# Altium schematic symbol library Schlib1.SchLib: 185 symbols (part 1 of 2)
Pins are listed as number, name and electrical type; pins without a type are passive.

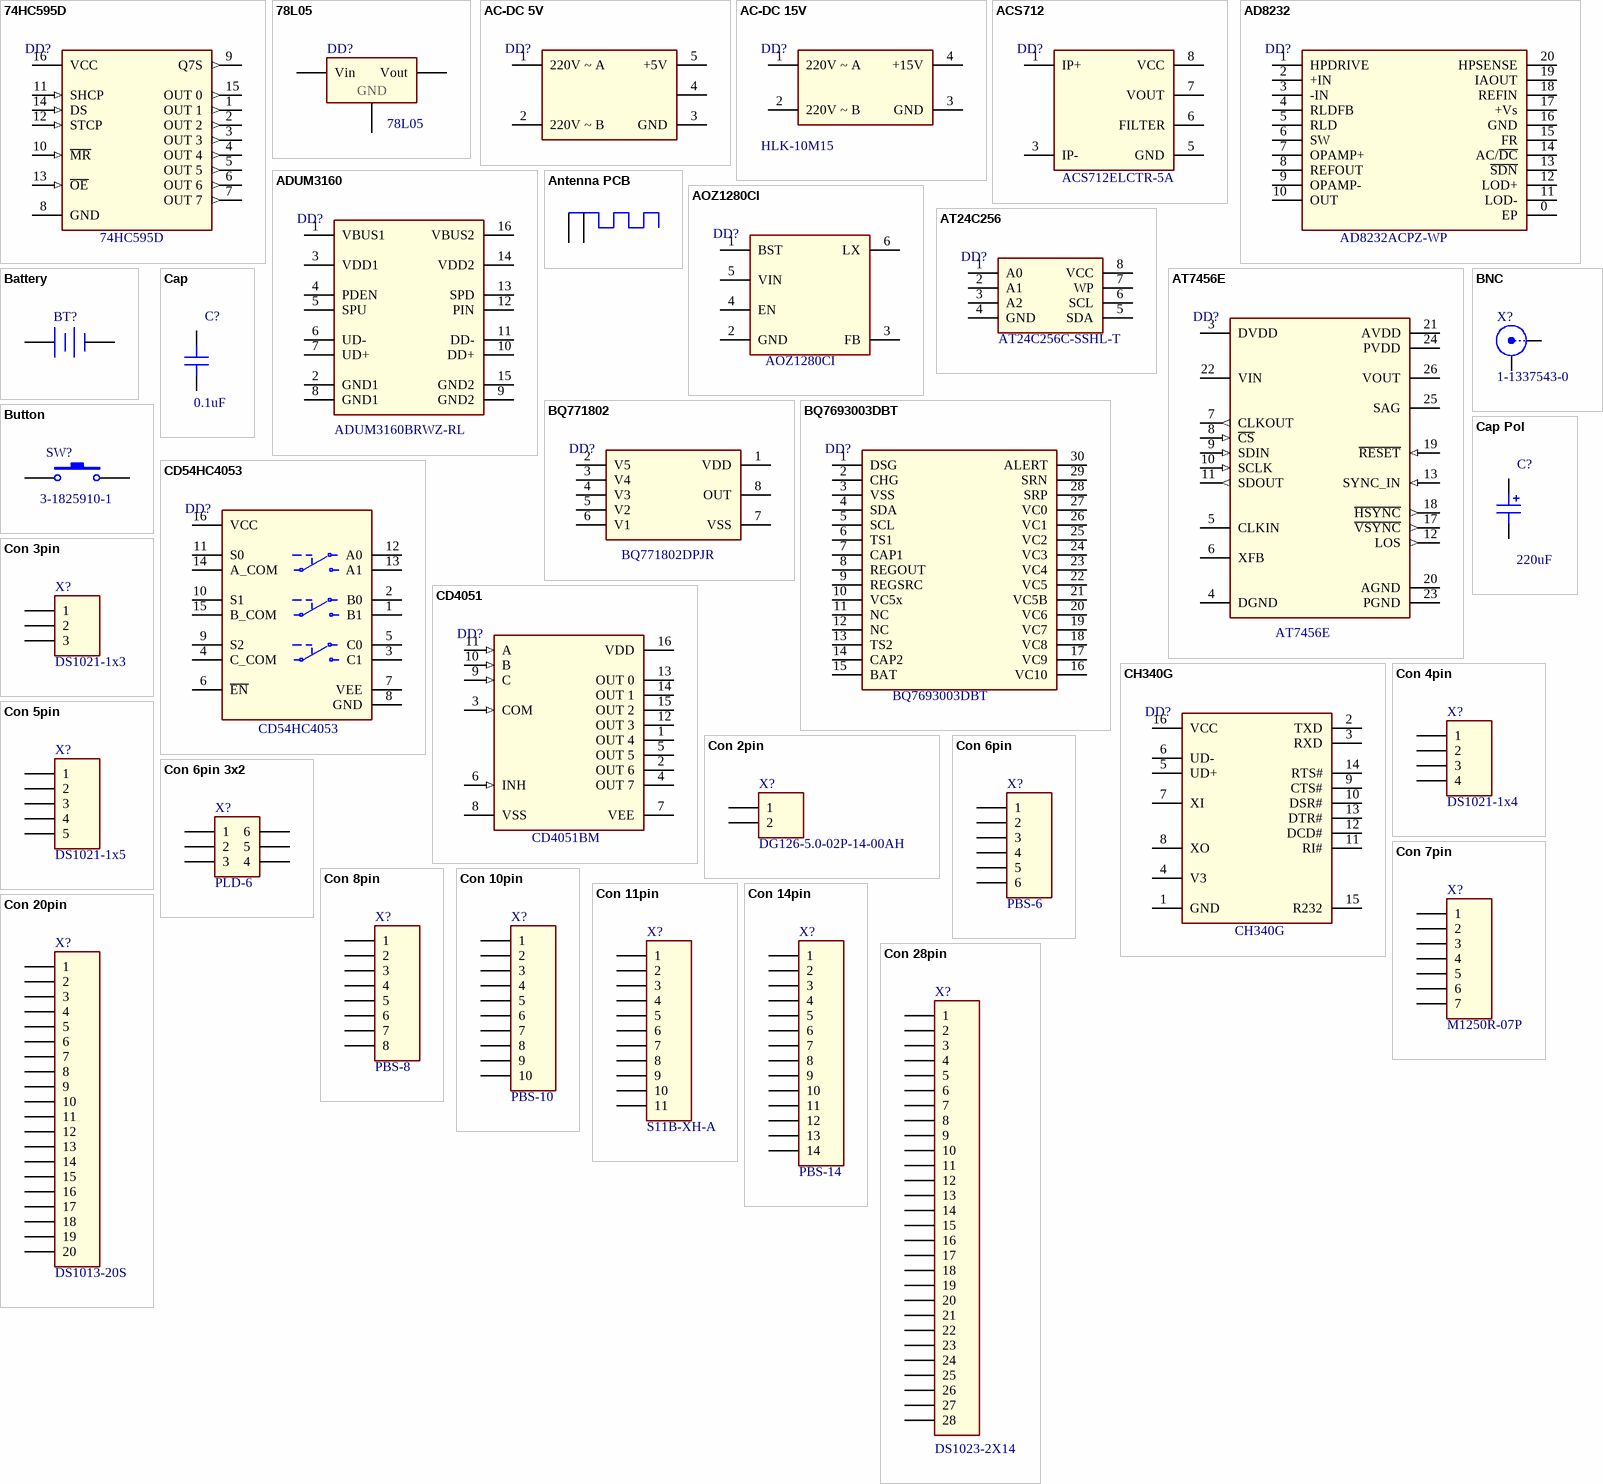
[diagram p0: symbols 74HC595D to Con 28pin]

## 74HC595D
designator DD?  PartNumber: 74HC595D
IC, shift register, 8-bit; Manufacturer: NXP; Package: SOIC-16
footprint 16-SOIC (pitch 1.27 mm)
pins: 1 OUT 1 (out), 2 OUT 2 (out), 3 OUT 3 (out), 4 OUT 4 (out), 5 OUT 5 (out), 6 OUT 6 (out), 7 OUT 7 (out), 8 GND, 9 Q7S (out), 10 ~{MR} (in), 11 SHCP (in), 12 STCP (in), 13 ~{OE} (in), 14 DS (in), 15 OUT 0 (out), 16 VCC

## 78L05
designator DD?  PartNumber: 78L05
IC, LDO, 100mA, 5V; Manufacturer: STMicroelectronics; Package: SOT-89-3; ComponentLink1Description: New link; ComponentLink1URL: *
footprint SOT-89-3
pins: 1 Vout, 2 GND, 3 Vin

## AC-DC 5V
designator DD?
AC-DC Power Supply 5V 700mA; Manufacturer: China; Package: Custom PCB; PartNumber: *
footprint MOD: AC-DC 5V 0.7A
pins: 1 220V ~ A, 2 220V ~ B, 3 GND, 4, 5 +5V

## AC-DC 15V
designator DD?  PartNumber: HLK-10M15
AC-DC Power Supply 15V 0.67A; Manufacturer: Hi-Link; Package: Custom module
footprint MOD: AC-DC HLK-10MXX
pins: 1 220V ~ A, 2 220V ~ B, 3 GND, 4 +15V

## ACS712
designator DD?  PartNumber: ACS712ELCTR-5A
IC, Hall Effect-Based Linear Current Sensor; Manufacturer: Allegro; Package: SOIC-8
footprint 8-SOIC (pitch 1.27 mm); pin to pad 1>1+2 3>3+4
pins: 1 IP+, 3 IP-, 5 GND, 6 FILTER, 7 VOUT, 8 VCC

## AD8232
designator DD?  PartNumber: AD8232ACPZ-WP
IC, Heart Rate Monitor; Manufacturer: Analog Devices; Package: LFCSP-20
footprint 20-LFCSP
pins: 0 EP, 1 HPDRIVE, 2 +IN, 3 -IN, 4 RLDFB, 5 RLD, 6 SW, 7 OPAMP+, 8 REFOUT, 9 OPAMP-, 10 OUT, 11 LOD-, 12 LOD+, 13 ~{SDN}, 14 AC/~{DC}, 15 FR, 16 GND, 17 +Vs, 18 REFIN, 19 IAOUT, 20 HPSENSE

## ADUM3160
designator DD?  PartNumber: ADUM3160BRWZ-RL
IC, Full/Low Speed 2.5 kV USB Digital Isolator; Manufacturer: Analog Devices; Package: SOIC-16-W
footprint 16-SOIC-W
pins: 1 VBUS1, 2 GND1, 3 VDD1, 4 PDEN, 5 SPU, 6 UD-, 7 UD+, 8 GND1, 9 GND2, 10 DD+, 11 DD-, 12 PIN, 13 SPD, 14 VDD2, 15 GND2, 16 VBUS2

## Antenna PCB
designator ANT?  (net tie, no BOM)
footprint ANT: MIFA AN91445
footprint ANT: LITTLE_WORM
pins: 1 RF, 2 GND

## AOZ1280CI
designator DD?  PartNumber: AOZ1280CI
IC, Simple Buck Regulator; Manufacturer: Alpha & Omega; Package: SOT-26
footprint SOT-26
pins: 1 BST, 2 GND (power), 3 FB, 4 EN, 5 VIN (power), 6 LX

## AT24C256
designator DD?  PartNumber: AT24C256C-SSHL-T
IC, EEPROM; Manufacturer: Microchip Technology; Package: DIP8+socket
footprint 8-SOIC (pitch 1.27 mm)
footprint 8-DIP+SOCKET
pins: 1 A0, 2 A1, 3 A2, 4 GND, 5 SDA, 6 SCL, 7 WP, 8 VCC

## AT7456E
designator DD?  PartNumber: AT7456E
IC, Single-Channel Monochrome On-Screen Display with Integrated EEPROM; Manufacturer: ZHONGKEWEI; Package: TSSOP-28
footprint 28-TSSOP
pins: 3 DVDD, 4 DGND, 5 CLKIN, 6 XFB, 7 CLKOUT (out), 8 ~{CS} (in), 9 SDIN (in), 10 SCLK (in), 11 SDOUT (out), 12 LOS (out), 13 SYNC_IN (in), 17 ~{VSYNC} (out), 18 ~{HSYNC} (out), 19 ~{RESET} (in), 20 AGND, 21 AVDD, 22 VIN, 23 PGND, 24 PVDD, 25 SAG, 26 VOUT

## Battery
designator BT?
Coin Battery Holder; Manufacturer: KLS electronic co ltd; PartNumber: KLS5-CR2032-01; Package: BH-642
footprint BAT: BH-642
pins: 1 +, 2 -

## BNC
designator X?  PartNumber: 1-1337543-0
Connector BNC; Manufacturer: TE Connectivity; Package: 1-1337543-0
footprint CON: 1-1337543-0
footprint CON: F102-243
pins: 1 X, 2 Y

## BQ771802
designator DD?  PartNumber: BQ771802DPJR
IC, Heart Rate Monitor; Manufacturer: Texas Instruments; Package: WSON-8
footprint 8-WSON 3x4
pins: 1 VDD, 2 V5, 3 V4, 4 V3, 5 V2, 6 V1, 7 VSS, 8 OUT

## BQ7693003DBT
designator DD?  PartNumber: BQ7693003DBT
IC,  10-series cell battery monitor family / for li-ion; Manufacturer: Texas Instruments; Package: TSSOP-30
footprint 30-TSSOP
pins: 1 DSG, 2 CHG, 3 VSS, 4 SDA, 5 SCL, 6 TS1, 7 CAP1, 8 REGOUT, 9 REGSRC, 10 VC5x, 11 NC, 12 NC, 13 TS2, 14 CAP2, 15 BAT, 16 VC10, 17 VC9, 18 VC8, 19 VC7, 20 VC6, 21 VC5B, 22 VC5, 23 VC4, 24 VC3, 25 VC2, 26 VC1, 27 VC0, 28 SRP, 29 SRN, 30 ALERT

## Button
designator SW?  PartNumber: 3-1825910-1
Switch Tactile 6x6; Manufacturer: TE Connectivity; Package: DIP 6х6 H17
footprint BUT: DIP 6x6 H16
footprint BUT: SMD 6x6 H4.3
footprint BUT: KLS7-TS6606-5.0
footprint BUT: SMD 6x6 H8
footprint BUT: SMD 5Х5 H1.5
footprint BUT: DIP 6x6 H4.3
footprint BUT: KLS7-TS6606-8.0
footprint BUT: SMD 6x6 H11.5
footprint BUT: SMD 5Х5 H4.5
footprint BUT: SMD 6.4Х6.2 H5
pins: 1, 2

## Cap
designator C?  value 0.1uF
Cap; PartNumber: C0402_0.1uF_X7R_10V_20%; Voltage: 10V; Tolerance: 20%; TypeDielectric: X7R; Manufacturer: *; Package: 0402
footprint CAP: 0402
footprint CAP: 0603
footprint CAP: 0805
footprint CAP: ECQ-E6103KF
footprint CAP: JFZ0A9474K150000B
footprint CAP: JFW0A9684K225000B
footprint CAP: B32922C3474K000
footprint CAP: JFB02G105K200000B
footprint CAP: 1206
footprint CAP: Y2_222_7.5pitch
footprint CAP: 1812
footprint CAP: 0201
pins: 1, 2

## Cap Pol
designator C?  value 220uF
Cap, electrolytic; PartNumber: C6.3x11_220uF_16V_20%; Tolerance: 20%; Voltage: 16V; Manufacturer: *; Package: 6.3x11
footprint CAP: ELCT 6.3x11 BLUE
footprint CAP: ELCT 10x20 BLUE
footprint CAP: ELCT 18x35 BLACK
footprint CAP: ELCT R 10x20 BLUE TYPE1
pins: 1, 2

## CD54HC4053
designator DD?  PartNumber: CD54HC4053
IC, Logic Analog Multiplexer; Manufacturer: Texas Instruments; Package: SOIC-16
footprint 16-SOIC (pitch 1.27 mm)
pins: 1 B1, 2 B0, 3 C1, 4 C_COM, 5 C0, 6 ~{EN}, 7 VEE, 8 GND, 9 S2, 10 S1, 11 S0, 12 A0, 13 A1, 14 A_COM, 15 B_COM, 16 VCC

## CD4051
designator DD?  PartNumber: CD4051BM
IC, Multiplexer, 8 channels; Manufacturer: Texas Instruments; Package: SOIC-16
footprint 16-SOIC (pitch 1.27 mm)
pins: 1 OUT 4, 2 OUT 6, 3 COM (in), 4 OUT 7, 5 OUT 5, 6 INH (in), 7 VEE, 8 VSS, 9 C (in), 10 B (in), 11 A (in), 12 OUT 3, 13 OUT 0, 14 OUT 1, 15 OUT 2, 16 VDD

## CH340G
designator DD?  PartNumber: CH340G
IC, USB to UART; Manufacturer: DreamCity Innovations; Package: SOIC-16
footprint 16-SOIC (pitch 1.27 mm)
pins: 1 GND, 2 TXD, 3 RXD, 4 V3, 5 UD+, 6 UD-, 7 XI, 8 XO, 9 CTS#, 10 DSR#, 11 RI#, 12 DCD#, 13 DTR#, 14 RTS#, 15 R232, 16 VCC

## Con 2pin
designator X?  PartNumber: DG126-5.0-02P-14-00AH
Connector, 2 pin, 5 mm pitch; Manufacturer: Degson Electronics Co. Ltd.; Pitch: 5mm; Package: DG126
footprint CON: DG126-5.0-02
footprint CON: PLS-2
footprint CON: DG350-3.5-02
footprint CON: DG308-2.54-02
footprint CON: GH 2PINS SMD VERTICAL
footprint CON: PBS-2
footprint CON: DG301-5.0-02
footprint CON: DG128-5.0-02P
footprint CON: PLS-2 (TYPE 11)
pins: 1, 2

## Con 3pin
designator X?  PartNumber: DS1021-1x3
Connector, 3 pin, 2.54 mm pitch; Manufacturer: Connfly electronic (Zhenqin); Pitch: 2.54; Package: PLS-3
footprint CON: PLS-3
footprint CON: PLS-3R-U1
footprint CON: PLS-3R-D1
footprint CON: GH 3PINS SMD VERTICAL
footprint CON: PLSS-3-1 EDGE
footprint CON: SCSL-3 EDGE
footprint CON: PLSS-3-1
footprint CON: DG350-3.5-03
footprint CON: JST-XH -Thru (V)-3Pin
pins: 1, 2, 3

## Con 4pin
designator X?  PartNumber: DS1021-1x4
Connector, 4 pin, 2.54 mm pitch; Manufacturer: Connfly electronic (Zhenqin); Pitch: 2.54; Package: PLS-4
footprint CON: PLS-4
footprint CON: HB825-8.25-4P
footprint CON: KLS12-153-4P
footprint CON: SH 4PINS SMD HORIZONTAL
footprint CON: B4B-PH-K-S
pins: 1, 2, 3, 4

## Con 5pin
designator X?  PartNumber: DS1021-1x5
Connector, 5 pin, 2.54 mm pitch; Manufacturer: Connfly electronic (Zhenqin); Pitch: 2.54; Package: PLS-5
footprint CON: GH 5PINS SMD VERTICAL
footprint CON: B5B-PH-K-S
pins: 1, 2, 3, 4, 5

## Con 6pin
designator X?  PartNumber: PBS-6
Connector, 6 pin, 2.54 mm pitch; Manufacturer: Connfly electronic (Zhenqin); Pitch: 2.54mm; Package: PBS-6
footprint CON: PBS-6
footprint CON: PLS-6R-D1
footprint CON: PBS-6R
footprint CON: PLS-6
footprint CON: 5034800640
pins: 1, 2, 3, 4, 5, 6

## Con 6pin 3x2
designator X?  PartNumber: PLD-6
Connector, 6 pin 3x2, 2.54 mm pitch; Manufacturer: Connfly electronic (Zhenqin); Pitch: 2.54mm; Package: PLD-6
footprint CON: PLD-6
footprint CON: PBD-6 LONG
pins: 1, 2, 3, 4, 5, 6

## Con 7pin
designator X?  PartNumber: M1250R-07P
Connector, 7 pin, 1.25 mm pitch; Manufacturer: XFCN; Pitch: 1.25mm; Package: M1250R-07P
footprint CON: M1250R-07P
pins: 1, 2, 3, 4, 5, 6, 7

## Con 8pin
designator X?  PartNumber: PBS-8
Connector, 8 pin, 2.54 mm pitch; Manufacturer: Connfly electronic (Zhenqin); Pitch: 2.54mm; Package: PBS-8
footprint CON: PBS-8
footprint CON: PLS-8R-D1
footprint CON: PLD-8 EDGE
footprint CON: PLS-8
footprint CON: FFC/FPC 8 PINS 0.5MM PITCH
footprint CON: PLS-8 (TYPE 10)
footprint CON: PLS-8 TIGHTLY
footprint CON: PLS-8 (TYPE 10) TIGHTLY
pins: 1, 2, 3, 4, 5, 6, 7, 8

## Con 10pin
designator X?  PartNumber: PBS-10
Connector, 10 pin, 2.54 mm pitch; Manufacturer: Connfly electronic (Zhenqin); Pitch: 2.54mm; Package: PBS-10
footprint CON: PBS-10 (PBS-16)
footprint CON: FFC/FPC 10 PINS 1MM PITCH
footprint CON: PBD-10
pins: 1, 2, 3, 4, 5, 6, 7, 8, 9, 10

## Con 11pin
designator X?  PartNumber: S11B-XH-A
Connector, 11 pin, 2.5 mm pitch; Manufacturer: KLS electronic co ltd; Pitch: 2.5 mm; Package: S11B-XH-A
footprint CON: S11B-XH-A
pins: 1, 2, 3, 4, 5, 6, 7, 8, 9, 10, 11

## Con 14pin
designator X?  PartNumber: PBS-14
Connector, 14 pin, 2.54 mm pitch; Manufacturer: Connfly electronic (Zhenqin); Pitch: 2.54mm; Package: PBS-14
footprint CON: PBS-14 (PBS-16)
footprint CON: IDC BH-14R
footprint CON: IDC-14MS
pins: 1, 2, 3, 4, 5, 6, 7, 8, 9, 10, 11, 12, 13, 14

## Con 20pin
designator X?  PartNumber: DS1013-20S
Connector, 20 pin, 2.54 mm pitch; Manufacturer: Connfly electronic (Zhenqin); Pitch: 2.54mm; Package: IDC-20MS
footprint CON: IDC-20MS
footprint CON: PLD-20
pins: 1, 2, 3, 4, 5, 6, 7, 8, 9, 10, 11, 12, 13, 14, 15, 16, 17, 18, 19, 20

## Con 28pin
designator X?  PartNumber: DS1023-2X14
Connector, 28 pin, 2.54 mm pitch; Manufacturer: Connfly electronic (Zhenqin); Pitch: 2.54; Package: PBD-28
footprint CON: PBD-28
footprint CON: PLD-28
pins: 1, 2, 3, 4, 5, 6, 7, 8, 9, 10, 11, 12, 13, 14, 15, 16, 17, 18, 19, 20, 21, 22, 23, 24, 25, 26, 27, 28

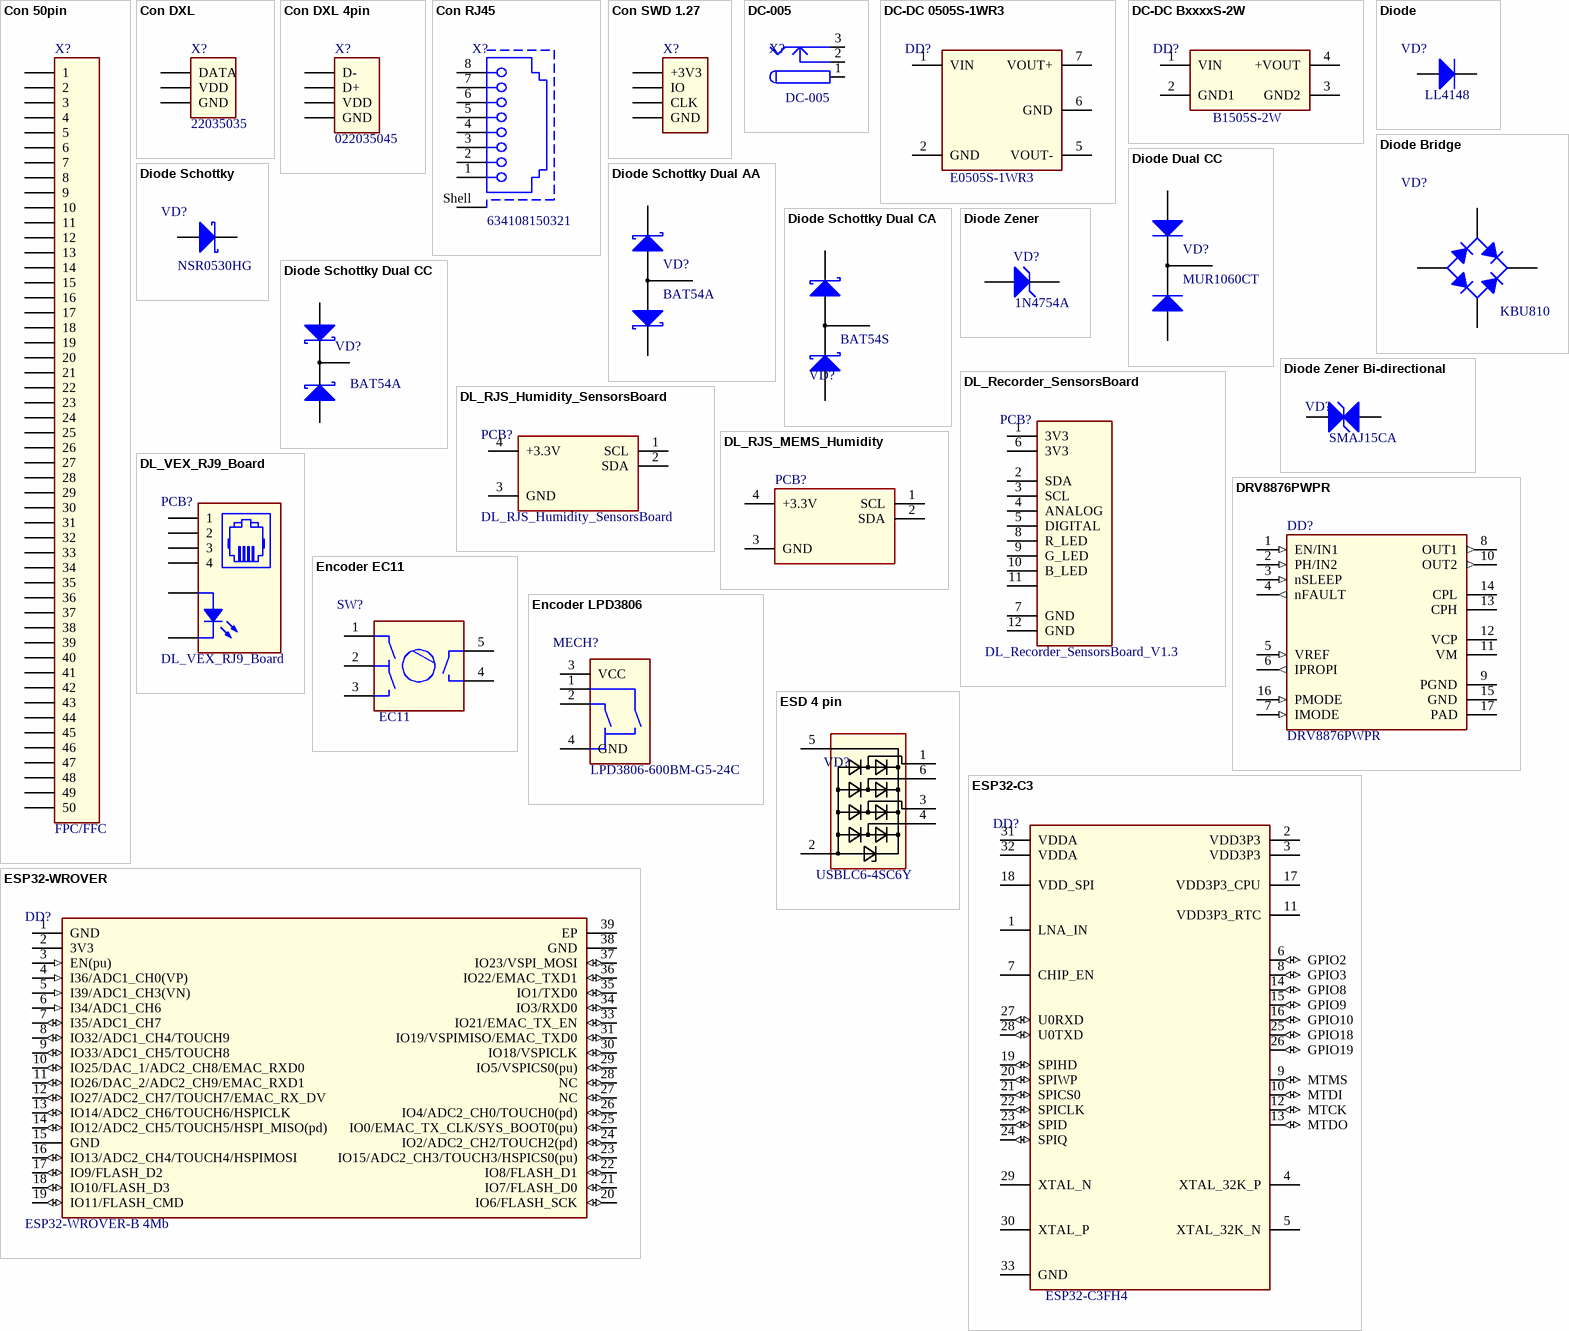
[diagram p1: symbols Con 50pin to ESP32-WROVER]

## Con 50pin
designator X?  PartNumber: FPC/FFC
Connector FFC/FPC, 50 pin, 0.5 mm pitch; Manufacturer: China; Pitch: 0.5; Package: FPC/FFC
footprint CON: FFC/FPC 50 PINS 0.5MM PITCH
pins: 1, 2, 3, 4, 5, 6, 7, 8, 9, 10, 11, 12, 13, 14, 15, 16, 17, 18, 19, 20, 21, 22, 23, 24, 25, 26, 27, 28, 29, 30, 31, 32, 33, 34, 35, 36, 37, 38, 39, 40, 41, 42, 43, 44, 45, 46, 47, 48, 49, 50

## Con DXL
designator X?  PartNumber: 22035035
Connector, 3 pin, 2.5 mm pitch; Manufacturer: Molex; Pitch: 2.5mm; Package: 22035035
footprint CON: 22035035
footprint CON: 22057035
footprint CON: JST-B3B-EH-A
pins: 1 DATA, 2 VDD, 3 GND

## Con DXL 4pin
designator X?  PartNumber: 022035045
Connector, 4 pin, 2.5 mm pitch; Manufacturer: Molex; Pitch: 2.5mm; Package: 022035045
footprint CON: 22035045
footprint CON: 22057045
pins: 1 D-, 2 D+, 3 VDD, 4 GND

## Con RJ45
designator X?  PartNumber: 634108150321
Connector, RJ45; Manufacturer: Wurth Elektronik; Package: 634108150321
footprint CON: 634108150321
footprint PCB: DL_RJS_Splitter_MiniRJS
footprint CON: ZES15211NN
pins: 1, 2, 3, 4, 5, 6, 7, 8, Shell

## Con SWD 1.27
designator X?  (no BOM)
Connector, 4 holes , 1.27 mm pitch
footprint CON: HOLE X 4 1.27P D0.6
pins: 1 GND, 2 CLK, 3 IO, 4 +3V3

## DC-005
designator X?  PartNumber: DC-005
Con, Jack 5.5x2.1; Manufacturer: Китай; ComponentLink1Description: Manufacturer Link; ComponentLink1URL: http://domino.kycon.com/internet/Products.html; Package: DC-005
footprint CON: DC-005
pins: 1 (power), 2 (power), 3 (power)

## DC-DC 0505S-1WR3
designator DD?  PartNumber: E0505S-1WR3
IC, 1W, Fixed input voltage , isolated & unregulated dual output; Manufacturer: MORNSUN; Package: SIP-7
footprint MOD: DC-DC 0505S-1WR3
pins: 1 VIN, 2 GND, 5 VOUT-, 6 GND, 7 VOUT+

## DC-DC ВххххS-2W
designator DD?  PartNumber: B1505S-2W
Module, 2W isolated DC-DC converter; Manufacturer: MORNSUN; Package: SIP-7
footprint MOD: DC-DC BХХХХS-2W
pins: 1 VIN, 2 GND1, 3 GND2, 4 +VOUT

## Diode
designator VD?  PartNumber: LL4148
Diode, 100V, 150mA; Manufacturer: Vishay Semiconductors; Package: SOD-80; ComponentLink1Description: Datasheet link; ComponentLink1URL: http://www.diodes.com/datasheets/ds19005.pdf
footprint DIODE: SOD-323
footprint DIODE: SMC
footprint DIODE: SOD-128
footprint DIODE: SOD-523
footprint DIODE: SOD-80
footprint DIODE: SOD-123
footprint DIODE: DO-41 (DO-204AL)
footprint DIODE: SMA
footprint DIODE: DO-15 (DO-204AC)
pins: 1 A, 2 C

## Diode Bridge
designator VD?  PartNumber: KBU810
Bridge Rectifiers, 1000V, 8A; Manufacturer: Yangjie; Package: KBU; ComponentLink1Description: Datasheet link; ComponentLink1URL: http://www.diodes.com/datasheets/ds19005.pdf
footprint DIODE: BRIDGE KBU
pins: 1 A, 2 A-C, 3 A-C, 4 C

## Diode Dual CC
designator VD?  PartNumber: MUR1060CT
Diode Ultra Fast Dual CC, 600V, 10A; Manufacturer: Yangjie; Package: TO-220; ComponentLink1Description: Datasheet link; ComponentLink1URL: http://www.diodes.com/datasheets/ds19005.pdf
footprint TO-220
footprint TO-220 BENT LEADS 1
pins: 1 A, 2 AA, 3 A

## Diode Schottky
designator VD?  PartNumber: NSR0530HG
Diode Schottky, 30V, 0.5A; Manufacturer: ON  Semiconducto; Package: SOD-323; ComponentLink1Description: Datasheet link; ComponentLink1URL: http://www.diodes.com/datasheets/ds19005.pdf
footprint DIODE: SOD-323
footprint DIODE: SMC
footprint DIODE: SOD-128
footprint DIODE: SOD-523
footprint DIODE: SMA
footprint DIODE: SOD-123
pins: 1 A, 2 C

## Diode Schottky Dual AA
designator VD?  PartNumber: BAT54A
Diode Schottky Dual, 30V, 0.2A; Manufacturer: NXP; Package: SOD-323; ComponentLink1Description: Datasheet link; ComponentLink1URL: http://www.diodes.com/datasheets/ds19005.pdf
footprint SOT-23
pins: 1 C, 2 C, 3 AA

## Diode Schottky Dual CA
designator VD?  PartNumber: BAT54S
Diode Schottky Dual, 30V, 0.2A; Manufacturer: NXP; Package: SOD-323; ComponentLink1Description: Datasheet link; ComponentLink1URL: http://www.diodes.com/datasheets/ds19005.pdf
footprint SOT-23
pins: 1 A, 2 C, 3 CA

## Diode Schottky Dual CC
designator VD?  PartNumber: BAT54A
Diode Schottky Dual, 30V, 0.2A; Manufacturer: NXP; Package: SOD-323; ComponentLink1Description: Datasheet link; ComponentLink1URL: http://www.diodes.com/datasheets/ds19005.pdf
footprint SOT-23
footprint TO-220 SHORT LEADS; pin to pad 2>3 3>2
pins: 1 C, 2 C, 3 AA

## Diode Zener
designator VD?  PartNumber: 1N4754A
Zener Diode; Manufacturer: China; Package: DO-41
footprint DIODE: DO-41 (DO-204)
footprint DIODE: DO-41 GLASS (DO-204)
footprint DIODE: SMA
footprint DIODE: SOD-123
pins: 1 A, 2 C

## Diode Zener Bi-directional
designator VD?  PartNumber: SMAJ15CA
Zener Diode, Bi-directional; Manufacturer: Yangjie; Package: SMA
footprint DIODE: SMA
pins: 1 A, 2 C

## DL_Recorder_SensorsBoard
designator PCB?  PartNumber: DL_Recorder_SensorsBoard_V1.3
PCB, MEMS sensors+LEDs; Manufacturer: AR; Package: PCB
footprint PCB: DL_Recorder_SensorsBoard_V1.3
pins: 1 3V3, 2 SDA, 3 SCL, 4 ANALOG, 5 DIGITAL, 6 3V3, 7 GND, 8 R_LED, 9 G_LED, 10 B_LED, 11, 12 GND

## DL_RJS_Humidity_SensorsBoard
designator PCB?  PartNumber: DL_RJS_Humidity_SensorsBoard  (hidden comment: *)
PCB with HDC1080DMB; Manufacturer: AR; Package: PCB
footprint PCB: DL_RJS_HUMIDITY_SENSORSBOARD
footprint PCB: DL_RJS_HUMIDITY_SENSORSBOARD_BLACK
pins: 1 SCL, 2 SDA, 3 GND (power), 4 +3.3V

## DL_RJS_MEMS_Humidity
designator PCB?
Custom PCB with HDC1080DMB; Manufacturer: AR; PartNumber: DL_RJS_MEMS_Humidity_V1.0; Package: Custom PCB
footprint PCB: DL_RJS_MEMS_Accelerometer_V1.0
footprint PCB: DL_RJS_MEMS_Humidity_V1.0
footprint PCB: DL_RJS_MEMS_Luxmeter_V1.0
footprint PCB: DL_RJS_MEMS_UV_V1.0
pins: 1 SCL, 2 SDA, 3 GND (power), 4 +3.3V

## DL_VEX_RJ9_Board
designator PCB?  PartNumber: DL_VEX_RJ9_Board  (hidden comment: *)
PCB, RJ9+LED board; Manufacturer: AR; Package: PCB
footprint PCB: DL_VEX_RJ9_Board; pin to pad 1>4 2>3 3>2 4>1
pins: 1, 2, 3, 4, 5, 6

## DRV8876PWPR
designator DD?  PartNumber: DRV8876PWPR
IC, DC motor driver; Manufacturer: Texas Instruments; Package: 16-TSSOP
footprint 16-TSSOP-PAD
pins: 1 EN/IN1 (in), 2 PH/IN2 (in), 3 nSLEEP (in), 4 nFAULT (out), 5 VREF (in), 6 IPROPI (out), 7 IMODE (in), 8 OUT1 (out), 9 PGND (power), 10 OUT2 (out), 11 VM (power), 12 VCP, 13 CPH (power), 14 CPL (power), 15 GND (power), 16 PMODE (in), 17 PAD (power)

## Encoder EC11
designator SW?  PartNumber: EC11
Rotary encoder with button; Manufacturer: China; Package: EC11
footprint BUT: EC11-15mm
pins: 1, 2, 3, 4, 5

## Encoder LPD3806
designator MECH?  PartNumber: LPD3806-600BM-G5-24C
Rotary encoder; Manufacturer: China; Package: LPD3806
footprint MECH: ENCODER LPD3806
footprint MECH: ENCODER LPD3806 WITH CABLE GLAND
pins: 1, 2, 3 VCC, 4 GND

## ESD 4 pin
designator VD?  PartNumber: USBLC6-4SC6Y
Diode, ESD; Manufacturer: STMicroelectronics; Package: SOT-26
footprint SOT-26 (pitch 0.95 mm)
pins: 1, 2, 3, 4, 5, 6

## ESP32-C3
designator DD?  PartNumber: ESP32-C3FH4
IC, Microcontroller; Manufacturer: Espressif Systems; Package: QFN-32
footprint 32-QFN 0.5P 5x5
pins: 1 LNA_IN, 2 VDD3P3 (power), 3 VDD3P3 (power), 4 XTAL_32K_P, 5 XTAL_32K_N, 6 GPIO2 (io), 7 CHIP_EN, 8 GPIO3 (io), 9 MTMS (io), 10 MTDI (io), 11 VDD3P3_RTC (power), 12 MTCK (io), 13 MTDO (io), 14 GPIO8 (io), 15 GPIO9 (io), 16 GPIO10 (io), 17 VDD3P3_CPU (power), 18 VDD_SPI (power), 19 SPIHD (io), 20 SPIWP (io), 21 SPICS0 (io), 22 SPICLK (io), 23 SPID (io), 24 SPIQ (io), 25 GPIO18 (io), 26 GPIO19 (io), 27 U0RXD (io), 28 U0TXD (io), 29 XTAL_N, 30 XTAL_P, 31 VDDA (power), 32 VDDA (power), 33 GND (power)

## ESP32-WROVER
designator DD?  PartNumber: ESP32-WROVER-B 4Mb
Module, Flash 4Mb, PSRAM 4Mb, MIFA; Manufacturer: ESPRESSIF; Package: Custom PCB
footprint MOD: ESP32-WROVER
pins: 1 GND (power), 2 3V3 (power), 3 EN(pu) (in), 4 I36/ADC1_CH0(VP) (in), 5 I39/ADC1_CH3(VN) (in), 6 I34/ADC1_CH6 (in), 7 I35/ADC1_CH7 (io), 8 IO32/ADC1_CH4/TOUCH9 (io), 9 IO33/ADC1_CH5/TOUCH8 (io), 10 IO25/DAC_1/ADC2_CH8/EMAC_RXD0 (io), 11 IO26/DAC_2/ADC2_CH9/EMAC_RXD1 (io), 12 IO27/ADC2_CH7/TOUCH7/EMAC_RX_DV (io), 13 IO14/ADC2_CH6/TOUCH6/HSPICLK (io), 14 IO12/ADC2_CH5/TOUCH5/HSPI_MISO(pd) (io), 15 GND (power), 16 IO13/ADC2_CH4/TOUCH4/HSPIMOSI (io), 17 IO9/FLASH_D2 (io), 18 IO10/FLASH_D3 (io), 19 IO11/FLASH_CMD (io), 20 IO6/FLASH_SCK (io), 21 IO7/FLASH_D0 (io), 22 IO8/FLASH_D1 (io), 23 IO15/ADC2_CH3/TOUCH3/HSPICS0(pu) (io), 24 IO2/ADC2_CH2/TOUCH2(pd) (io), 25 IO0/EMAC_TX_CLK/SYS_BOOT0(pu) (io), 26 IO4/ADC2_CH0/TOUCH0(pd) (io), 27 NC (io), 28 NC (io), 29 IO5/VSPICS0(pu) (io), 30 IO18/VSPICLK (io), 31 IO19/VSPIMISO/EMAC_TXD0 (io), 33 IO21/EMAC_TX_EN (io), 34 IO3/RXD0 (io), 35 IO1/TXD0 (io), 36 IO22/EMAC_TXD1 (io), 37 IO23/VSPI_MOSI (io), 38 GND (power), 39 EP (power)

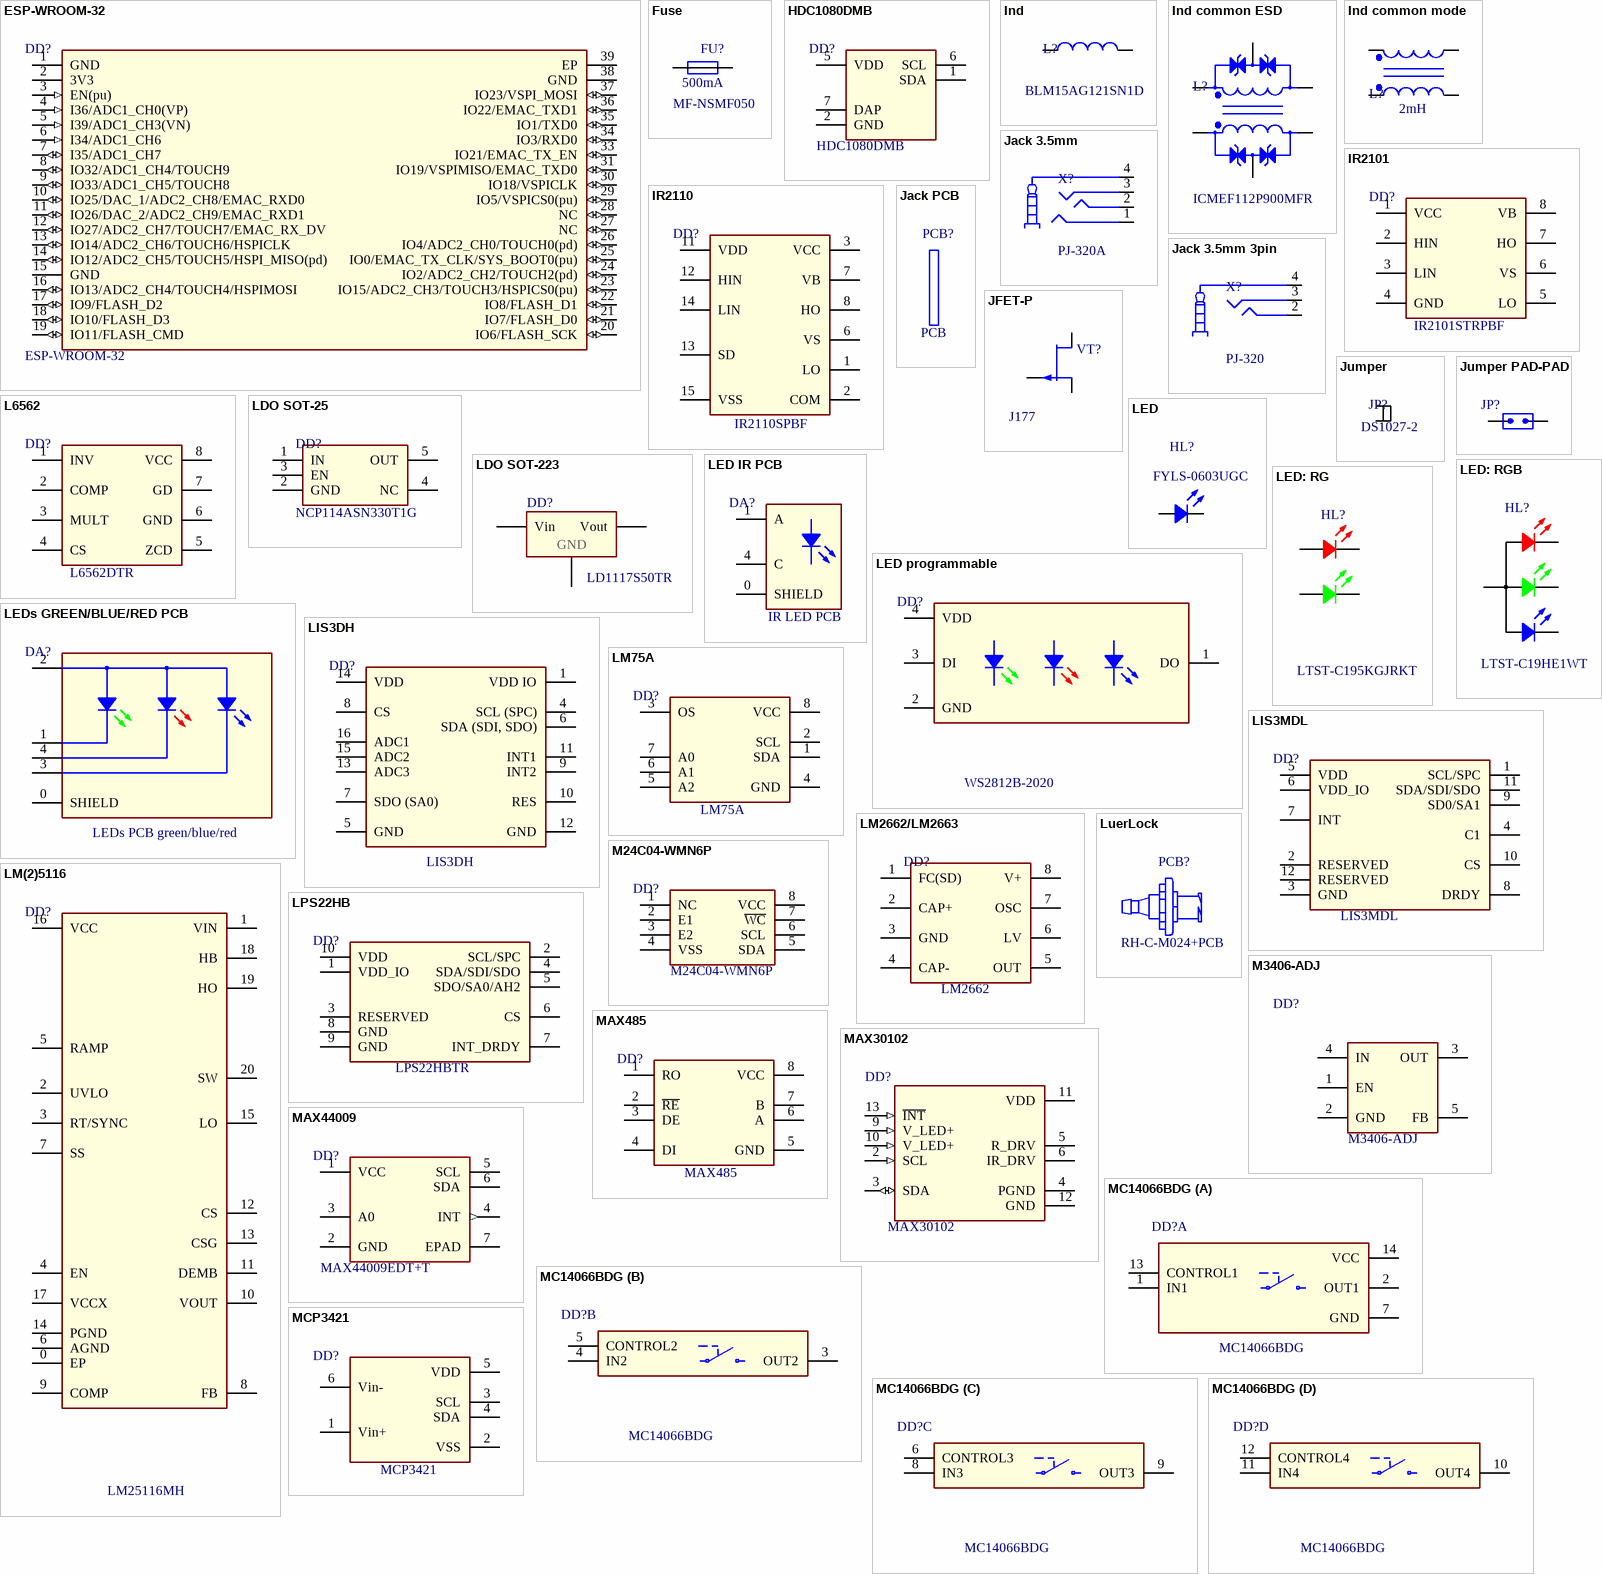
[diagram p2: symbols ESP-WROOM-32 to MCP3421]

## ESP-WROOM-32
designator DD?  PartNumber: ESP-WROOM-32
Module, Flash 4Mb, PSRAM 4Mb, MIFA; Manufacturer: ESPRESSIF; Package: Custom PCB
footprint MOD: ESP-WROOM-32
pins: 1 GND (power), 2 3V3 (power), 3 EN(pu) (in), 4 I36/ADC1_CH0(VP) (in), 5 I39/ADC1_CH3(VN) (in), 6 I34/ADC1_CH6 (in), 7 I35/ADC1_CH7 (io), 8 IO32/ADC1_CH4/TOUCH9 (io), 9 IO33/ADC1_CH5/TOUCH8 (io), 10 IO25/DAC_1/ADC2_CH8/EMAC_RXD0 (io), 11 IO26/DAC_2/ADC2_CH9/EMAC_RXD1 (io), 12 IO27/ADC2_CH7/TOUCH7/EMAC_RX_DV (io), 13 IO14/ADC2_CH6/TOUCH6/HSPICLK (io), 14 IO12/ADC2_CH5/TOUCH5/HSPI_MISO(pd) (io), 15 GND (power), 16 IO13/ADC2_CH4/TOUCH4/HSPIMOSI (io), 17 IO9/FLASH_D2 (io), 18 IO10/FLASH_D3 (io), 19 IO11/FLASH_CMD (io), 20 IO6/FLASH_SCK (io), 21 IO7/FLASH_D0 (io), 22 IO8/FLASH_D1 (io), 23 IO15/ADC2_CH3/TOUCH3/HSPICS0(pu) (io), 24 IO2/ADC2_CH2/TOUCH2(pd) (io), 25 IO0/EMAC_TX_CLK/SYS_BOOT0(pu) (io), 26 IO4/ADC2_CH0/TOUCH0(pd) (io), 27 NC (io), 28 NC (io), 29 IO5/VSPICS0(pu) (io), 30 IO18/VSPICLK (io), 31 IO19/VSPIMISO/EMAC_TXD0 (io), 33 IO21/EMAC_TX_EN (io), 34 IO3/RXD0 (io), 35 IO1/TXD0 (io), 36 IO22/EMAC_TXD1 (io), 37 IO23/VSPI_MOSI (io), 38 GND (power), 39 EP (power)

## Fuse
designator FU?  value 500mA  PartNumber: MF-NSMF050
Fuse, PTC; Manufacturer: Bourns; Package: 1206
footprint FUSE: 1206
footprint FUSE: KLS5-266
footprint FUSE: SMD 6.1x2.54
footprint FUSE: 0805
pins: 1, 2

## HDC1080DMB
designator DD?  PartNumber: HDC1080DMB
IC, Sensor of Humidity and Temperature; Manufacturer: Texas Instruments; Package: PWSON-6
footprint 6-PWSON
pins: 1 SDA, 2 GND (power), 5 VDD (power), 6 SCL, 7 DAP (power)

## Ind
designator L?  PartNumber: BLM15AG121SN1D
Inductor, Ferrite Beads, 1A, 10 Ohm; Manufacturer: Murata Electronics Inc.; Сurrent: 500mA; Impedance 100 MHz: 120 Ohm; Package: 0402; Value: *
footprint IND: 0402
footprint IND: 0603
footprint IND: SRN6045
footprint IND: TOR D15 S7 d0.6
footprint IND: TOR D30 S15 d1.0
footprint IND: TOR D31.5 S15.5 d1.6
footprint IND: 1008
footprint IND: 0805
footprint IND: FXL0420
footprint IND: VLS3015
footprint IND: 1008 H1
footprint IND: RLB0914
pins: 1, 2

## Ind common ESD
designator L?  PartNumber: ICMEF112P900MFR
COMMON MODE ESD FILTER; Manufacturer: Moda-Innochips; Impedance 100 MHz: 90 Ohm; Package: 1.27x1; Сurrent: *; Value: *
footprint IND: ICMEF112P900MFR
pins: 1, 2, 3, 4, 5, 6

## Ind common mode
designator L?  value 2mH
Common mode choke, 2mH, 4A; Manufacturer: China; PartNumber: CMC_2mH_4A; Package: CMC D17 S8 d0.6; Сurrent: 4A; Impedance 100 MHz: *
footprint IND: CMC 9x9 Coil former
footprint IND: CMC D18 S9 d0.6
footprint IND: CMC D22 S11 d0.6
footprint IND: WE-SL5
footprint IND: LF1480
footprint IND: B82722A
pins: 1, 2, 3, 4

## IR2101
designator DD?  PartNumber: IR2101STRPBF
IC, HIGH AND LOW SIDE DRIVER; Manufacturer: INFINEON TECHNOLOGIES AG.; Package: SOIC-8
footprint 8-SOIC
pins: 1 VCC, 2 HIN, 3 LIN, 4 GND, 5 LO, 6 VS, 7 HO, 8 VB

## IR2110
designator DD?  PartNumber: IR2110SPBF
IC, HIGH AND LOW SIDE DRIVER; Manufacturer: INFINEON TECHNOLOGIES AG.; Package: SOIC-16W
footprint 16-SOIC-W
pins: 1 LO, 2 COM, 3 VCC, 6 VS, 7 VB, 8 HO, 11 VDD, 12 HIN, 13 SD, 14 LIN, 15 VSS

## Jack 3.5mm
designator X?  PartNumber: PJ-320A
Con, Jack 3.5mm; ComponentLink1Description: Manufacturer Link; ComponentLink1URL: http://domino.kycon.com/internet/Products.html; Package: PJ-320A; Manufacturer: -
footprint CON: PJ-320A
pins: 1 (power), 2 (power), 3 (power), 4 (power)

## Jack 3.5mm 3pin
designator X?  PartNumber: PJ-320
Con, Jack 3.5mm 3pin; Manufacturer: China; ComponentLink1Description: Manufacturer Link; ComponentLink1URL: http://domino.kycon.com/internet/Products.html; Package: PJ-320
footprint CON: PJ-320
pins: 2 (power), 3 (power), 4 (power)

## Jack PCB
designator PCB?  PartNumber: PCB
Custom PCB; Manufacturer: AR; Package: Custom PCB
footprint SENS: PCB JACK

## JFET-P
designator VT?  PartNumber: J177
P-Channel JFET; Manufacturer: InterFET; Package: SOT-23
footprint SOT-23
pins: 1 S, 2 D, 3 G

## Jumper
designator JP?  PartNumber: DS1027-2
Jumper; Manufacturer: Connfly Electronic Co., Ltd.; Package: DS1027-2
footprint CON: DS1027-2
footprint CON: DS1027-2 R-angle D1
footprint CON: DS1027-2 R-angle U1

## Jumper PAD-PAD
designator JP?  (no BOM)
Jumper
footprint CON: JUMPER PAD-PAD
pins: 1, 2

## L6562
designator DD?  PartNumber: L6562DTR
IC, PFC CONTROLLER; Manufacturer: ST Microelectronics; Package: SOIC-8
footprint 8-SOIC (pitch 1.27 mm)
pins: 1 INV, 2 COMP, 3 MULT, 4 CS, 5 ZCD, 6 GND, 7 GD, 8 VCC

## LDO SOT-25
designator DD?  PartNumber: NCP114ASN330T1G
IC, LDO, 300mA, 3V3; Manufacturer: On Semiconductor; Package: SOT-25
footprint SOT-25
pins: 1 IN, 2 GND, 3 EN, 4 NC, 5 OUT

## LDO SOT-223
designator DD?  PartNumber: LD1117S50TR
IC, LDO, 950mA, 5V; Manufacturer: STMicroelectronics; Package: SOT-223; ComponentLink1Description: New link; ComponentLink1URL: *
footprint SOT-223
footprint SOT-23
pins: 1 GND, 2 Vout, 3 Vin

## LED
designator HL?  PartNumber: FYLS-0603UGC
LED, green; Manufacturer: Ningbo Foryard Optoelectronics Co.Ltd.; Package: 0603
footprint LED: 0603G
footprint LED: 0603R
footprint LED: 0603B
footprint LED: 5mm LED transparent; pin to pad 1>2 2>1
footprint LED: 3MM BLUE H13.6
footprint LED: 3MM TRANSPARENT H9.7 X8.6
footprint LED: 3MM TRANSPARENT H9.7 X10.6
footprint LED: 3MM YELLOW H13.6
footprint LED: 1206R Reverse Mount
footprint LED: 3MM TRANSPARENT H9.7 X10.6 TSHA4401
footprint LED: 3MM TRANSPARENT H9.7 X8.6 TSHA4401
footprint LED: 5mm LED transparent R-angle; pin to pad 1>2 2>1
pins: 1 C, 2 A
1 alternate drawing of the same symbol

## LED IR PCB
designator DA?
IR LED PCB; Manufacturer: *; Package: Custom; PartNumber: IR LED PCB
footprint MOD: PCB DIP_5MM_LED
pins: 0 SHIELD, 1 A, 4 C

## LED programmable
designator DD?  PartNumber: WS2812B-2020
Intelligent control LED; Manufacturer: WORLDSEMI; Package: 2020 4pin
footprint LED: WS2812B-2020
pins: 1 DO, 2 GND, 3 DI, 4 VDD

## LED: RG
designator HL?  PartNumber: LTST-C195KGJRKT
LED, RG; Manufacturer: Lite-on Electronics; Package: 0606
footprint LED: LTSTC19HE1WT (Footprint not found)
pins: 1 Anode R, 2 Anode G, 3 Catode G, 4 Catode R

## LED: RGB
designator HL?  PartNumber: LTST-C19HE1WT
LED, RGB; Manufacturer: Lite-on Electronics; Package: 0606
footprint LED: LTSTC19HE1WT (Footprint not found)
pins: 1 Catode R, 2 Catode G, 3 Catode B, 4 Anode

## LEDs GREEN/BLUE/RED PCB
designator DA?
LEDs PCB green/blue/red; Manufacturer: *; Package: Custom; PartNumber: LEDs PCB green/blue/red
footprint MOD: PCB 3_SMD_LED
pins: 0 SHIELD, 1, 2, 3, 4

## LIS3DH
designator DD?  PartNumber: LIS3DH
IC, MEMS accelerometer; Manufacturer: STMicroelectronics; Package: LGA-16
footprint 16-LGA (4x4 mm, pitch 0.65 mm)
pins: 1 VDD IO, 4 SCL (SPC), 5 GND, 6 SDA (SDI, SDO), 7 SDO (SA0), 8 CS, 9 INT2, 10 RES, 11 INT1, 12 GND, 13 ADC3, 14 VDD, 15 ADC2, 16 ADC1

## LIS3MDL
designator DD?  PartNumber: LIS3MDL
IC, magnetic sensor; Manufacturer: STMicroelectronics; Package: LGA-12
footprint 12-LGA
pins: 1 SCL/SPC, 2 RESERVED, 3 GND, 4 C1, 5 VDD, 6 VDD_IO, 7 INT, 8 DRDY, 9 SD0/SA1, 10 CS, 11 SDA/SDI/SDO, 12 RESERVED

## LM75A
designator DD?  PartNumber: LM75A
IC, Digital temperature sensor; Manufacturer: NXP; Package: SOIC-8
footprint 8-SOIC (pitch 1.27 mm)
pins: 1 SDA, 2 SCL, 3 OS, 4 GND, 5 A2, 6 A1, 7 A0, 8 VCC

## LM2662/LM2663
designator DD?  PartNumber: LM2662
IC, Switched Capacitor Voltage Converter; Manufacturer: Texas Instruments; Package: SOIC-8
footprint 8-SOIC (pitch 1.27 mm)
pins: 1 FC(SD), 2 CAP+, 3 GND, 4 CAP-, 5 OUT, 6 LV, 7 OSC, 8 V+

## LM(2)5116
designator DD?  PartNumber: LM25116MH
IC, Wide Range Synchronous Buck Controller; Manufacturer: Texas Instruments; Package: 20-HTSSOP
footprint 20-HTSSOP
pins: 0 EP, 1 VIN, 2 UVLO, 3 RT/SYNC, 4 EN, 5 RAMP, 6 AGND, 7 SS, 8 FB, 9 COMP, 10 VOUT, 11 DEMB, 12 CS, 13 CSG, 14 PGND, 15 LO, 16 VCC, 17 VCCX, 18 HB, 19 HO, 20 SW

## LPS22HB
designator DD?  PartNumber: LPS22HBTR
IC, Sensor of Pressure; Manufacturer: STMicroelectronics; Package: HLGA-10L
footprint 10-HCLGA
footprint 10-HLGA
pins: 1 VDD_IO, 2 SCL/SPC, 3 RESERVED, 4 SDA/SDI/SDO, 5 SDO/SA0/AH2, 6 CS, 7 INT_DRDY, 8 GND, 9 GND, 10 VDD

## LuerLock
designator PCB?  PartNumber: RH-C-M024+PCB
Custom PCB with LuerLock RH-C-M024; Manufacturer: AR; Package: Custom PCB
footprint SENS: LuerLock
footprint SENS: LuerLock low
footprint MECH: LuerLock+washer

## M24C04-WMN6P
designator DD?  PartNumber: M24C04-WMN6P
IC, EEPROM; Manufacturer: STMicroelectronics; Package: SOIC-8
footprint 8-SOIC (pitch 1.27 mm)
pins: 1 NC, 2 E1, 3 E2, 4 VSS, 5 SDA, 6 SCL, 7 ~{WC}, 8 VCC

## M3406-ADJ
designator DD?  PartNumber: M3406-ADJ
IC, 1.5MHz, 1A, High efficiency PWM step-down DC/DC Converter; Manufacturer: AEROSEMI; Package: SOT-25
footprint SOT-25
pins: 1 EN, 2 GND, 3 OUT, 4 IN, 5 FB

## MAX485
designator DD?  PartNumber: MAX485
IC, RS-485/RS-422 Transceivers; Manufacturer: Maxim; Package: SOIC-8
footprint 8-SOIC (pitch 1.27 mm)
pins: 1 RO, 2 ~{RE}, 3 DE, 4 DI, 5 GND, 6 A, 7 B, 8 VCC

## MAX30102
designator DD?  PartNumber: MAX30102
IC, Pulse Oximeter and / Heart-Rate Sensor; Manufacturer: Maxim Integrated; Package: 14-LEAD-OESIP
footprint 14-LEAD-OESIP
pins: 2 SCL (in), 3 SDA (io), 4 PGND, 5 R_DRV, 6 IR_DRV, 9 V_LED+ (in), 10 V_LED+ (in), 11 VDD (power), 12 GND, 13 ~{INT} (in)

## MAX44009
designator DD?  PartNumber: MAX44009EDT+T
IC, Sensor of Ambient Light; Manufacturer: Maxim Integrated; Package: OTDFN-6 (2x2)
footprint 6-OTDFN (2x2)
pins: 1 VCC (power), 2 GND (power), 3 A0, 4 INT (out), 5 SCL, 6 SDA, 7 EPAD

## MC14066BDG
designator DD?  PartNumber: MC14066BDG
IC, Quad Analog Switch; Manufacturer: ON Semiconductor; Package: SOIC-14
footprint 14-SOIC
part A pins: 1 IN1, 2 OUT1, 7 GND, 13 CONTROL1, 14 VCC
part B pins: 3 OUT2, 4 IN2, 5 CONTROL2
part C pins: 6 CONTROL3, 8 IN3, 9 OUT3
part D pins: 10 OUT4, 11 IN4, 12 CONTROL4

## MCP3421
designator DD?  PartNumber: MCP3421
IC, 18-Bit Analog-to-Digital Converter; Manufacturer: Microchip; Package: SOT-26
footprint SOT-26 (pitch 0.95 mm)
pins: 1 Vin+, 2 VSS, 3 SCL, 4 SDA, 5 VDD, 6 Vin-

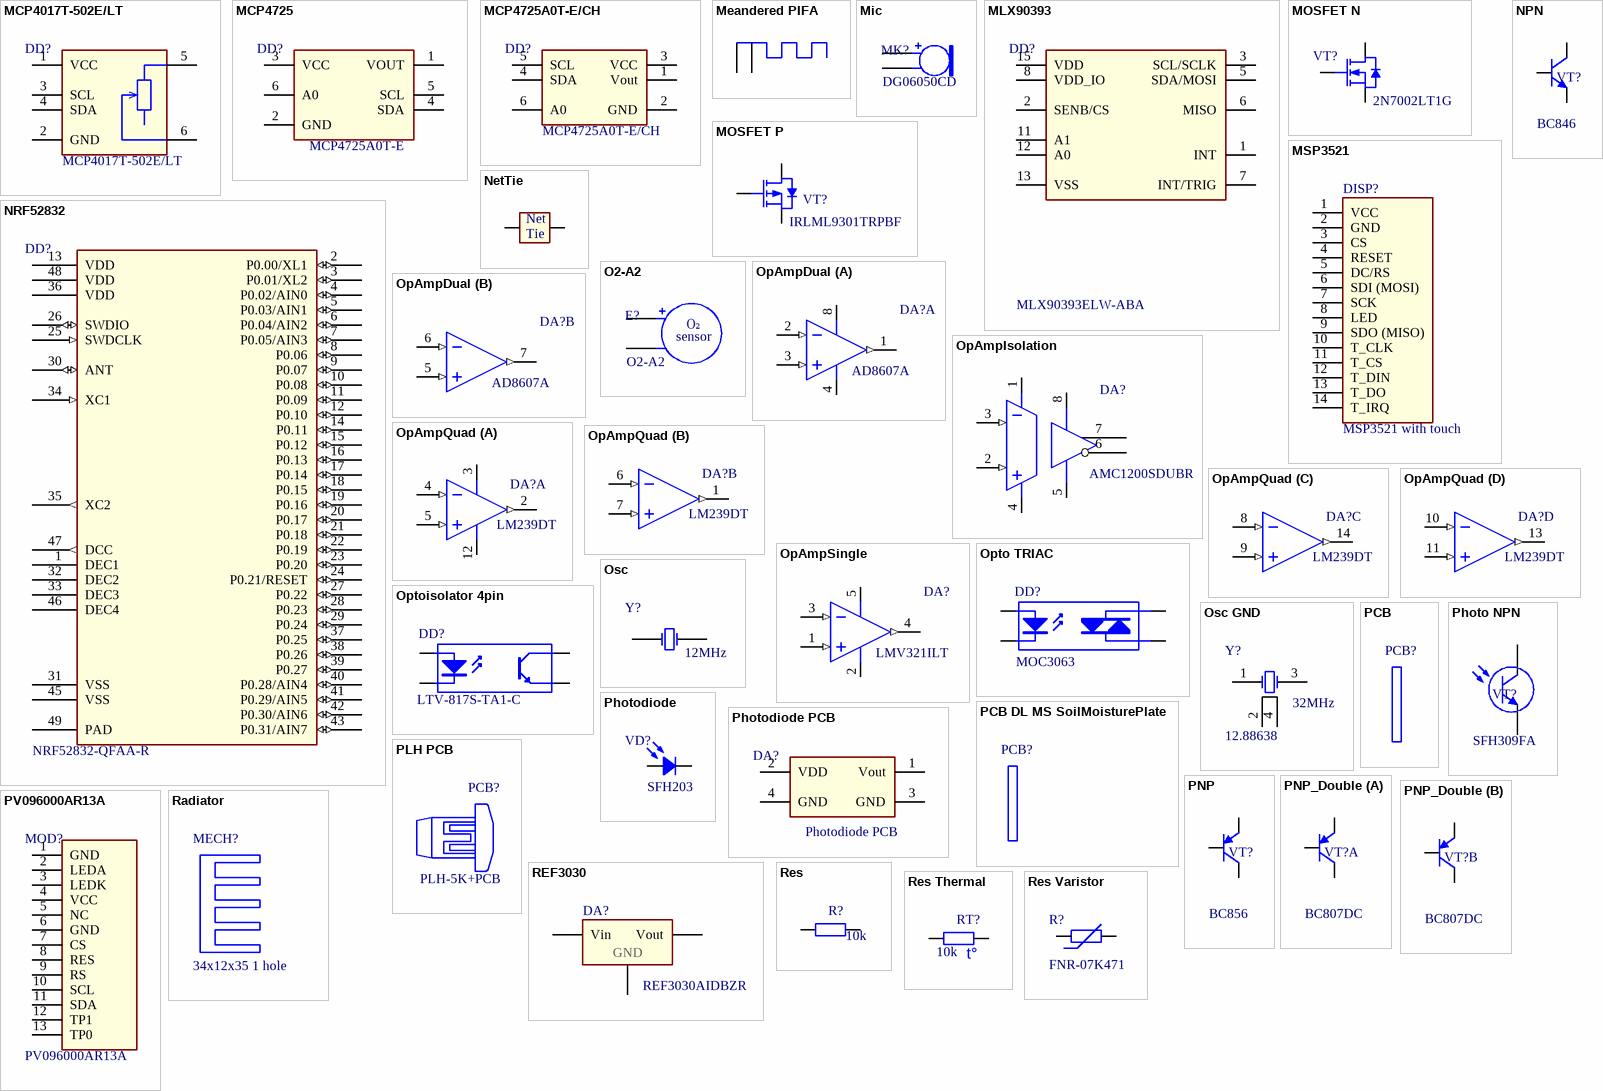
[diagram p3: symbols MCP4017T-502E/LT to Res Varistor]

## MCP4017T-502E/LT
designator DD?  PartNumber: MCP4017T-502E/LT
IC, 7-Bit Single I2C Digital POT; Manufacturer: Microchip Technology; Package: SOT-363
footprint SOT-363
pins: 1 VCC, 2 GND, 3 SCL, 4 SDA, 5 B, 6 W

## MCP4725
designator DD?  PartNumber: MCP4725A0T-E
IC, 12-Bit Digital-to-Analog Converter; Manufacturer: Microchip; Package: SOT-26
footprint SOT-26
pins: 1 VOUT, 2 GND (power), 3 VCC, 4 SDA, 5 SCL (power), 6 A0 (power)

## MCP4725A0T-E/CH
designator DD?  PartNumber: MCP4725A0T-E/CH
IC, 12-bit DAC; Manufacturer: Microchip Technology; Package: SOT-26
footprint SOT-26
pins: 1 Vout, 2 GND, 3 VCC, 4 SDA, 5 SCL, 6 A0

## Meandered PIFA
designator ANT?  (net tie, no BOM)
footprint IFA: AN043
pins: 1 RF, 2 GND

## Mic
designator MK?  PartNumber: DG06050CD
Microphone; Manufacturer: RUICHI; Package: 6x5
footprint MIC: 6X5 DIP
footprint MIC: 6X5 R-angle
footprint MIC: 6X5 DIP IN HOLE
footprint MIC: 6X5 R-angle 2
footprint MIC: 6X5 R-angle 3
footprint MIC: 9.7X6.7 R-angle 1.9 pitch
footprint MIC: 6X5 R-angle 4
footprint MIC: 9.7X6.7 R-angle 1.9 pitch 2
pins: 1 M, 2 P

## MLX90393
designator DD?  PartNumber: MLX90393ELW-ABA
IC, 3-Axis Magnetometer; Manufacturer: Honeywell; Package: QFN-16
footprint 16-QFN (3x3) (3x3 mm, pitch 0.5 mm)
pins: 1 INT, 2 SENB/CS, 3 SCL/SCLK, 5 SDA/MOSI, 6 MISO, 7 INT/TRIG, 8 VDD_IO, 11 A1, 12 A0, 13 VSS, 15 VDD

## MOSFET N
designator VT?  PartNumber: 2N7002LT1G
MOSFET, N; Manufacturer: On Semiconductor; Package: SOT-23
footprint SOT-23
footprint D2PAK; pin to pad 2>3 3>2
footprint TO-220F; pin to pad 2>3 3>2
footprint TO-220F BENT LEADS 1; pin to pad 2>3 3>2
footprint TO-220 SHORT LEADS; pin to pad 2>3 3>2
footprint 8-PDFN; pin to pad 1>4 2>1+2+3 3>5
pins: 1 G, 2 S, 3 D

## MOSFET P
designator VT?  PartNumber: IRLML9301TRPBF
MOSFET, P; Manufacturer: Infineon Technologies; Package: SOT-23
footprint SOT-23 (SOT23, 3-Leads, Body 2.9x1.3mm, Pitch 0.95mm, Lead Span 2.5mm, IPC Medium Density)
footprint DPAK; pin to pad 2>3 3>2
pins: 1 G, 2 S, 3 D

## MSP3521
designator DISP?  PartNumber: MSP3521 with touch
Surenoo MSP3521 3.5'' 320x480 SPI TFT LCD Module with touch; Manufacturer: Surenoo; Package: MSP3521 with touch
footprint MOD: MSP3521 with touch Gap 5mm
pins: 1 VCC, 2 GND, 3 CS, 4 RESET, 5 DC/RS, 6 SDI (MOSI), 7 SCK, 8 LED, 9 SDO (MISO), 10 T_CLK, 11 T_CS, 12 T_DIN, 13 T_DO, 14 T_IRQ

## NetTie
designator NT?  (value not drawn)  (net tie, no BOM)
footprint NetTie0.25
footprint NetTie0.15
pins: 1, 2
text: Net; Tie

## NPN
designator VT?  PartNumber: BC846
NPN Bipolar Transistor; Manufacturer: NXP; Package: SOT-23
footprint SOT-23
pins: 1 B, 2 E, 3 C

## NRF52832
designator DD?  PartNumber: NRF52832-QFAA-R
IC, BT LE SoC; Manufacturer: Nordic Semiconductor; Package: QFN-48 (6x6)
footprint 48-QFN (6X6)
pins: 1 DEC1 (power), 2 P0.00/XL1 (io), 3 P0.01/XL2 (io), 4 P0.02/AIN0 (io), 5 P0.03/AIN1 (io), 6 P0.04/AIN2 (io), 7 P0.05/AIN3 (io), 8 P0.06 (io), 9 P0.07 (io), 10 P0.08 (io), 11 P0.09 (io), 12 P0.10 (io), 13 VDD (power), 14 P0.11 (io), 15 P0.12 (io), 16 P0.13 (io), 17 P0.14 (io), 18 P0.15 (io), 19 P0.16 (io), 20 P0.17 (io), 21 P0.18 (io), 22 P0.19 (io), 23 P0.20 (io), 24 P0.21/RESET (io), 25 SWDCLK (in), 26 SWDIO (io), 27 P0.22 (io), 28 P0.23 (io), 29 P0.24 (io), 30 ANT (io), 31 VSS (power), 32 DEC2 (power), 33 DEC3 (power), 34 XC1 (in), 35 XC2 (out), 36 VDD (power), 37 P0.25 (io), 38 P0.26 (io), 39 P0.27 (io), 40 P0.28/AIN4 (io), 41 P0.29/AIN5 (io), 42 P0.30/AIN6 (io), 43 P0.31/AIN7 (io), 45 VSS (power), 46 DEC4 (power), 47 DCC (out), 48 VDD (power), 49 PAD (power)

## O2-A2
designator E?  PartNumber: O2-A2
Oxygen Sensor; Manufacturer: Alphasense Ltd; Package: O2-A2
footprint SENS: O2-A2 Oxygen Sensor
pins: 1 M, 2 P
text: O₂; sensor

## OpAmpDual
designator DA?  PartNumber: AD8607A
IC, Op Amp Dual; Manufacturer: Analog Devices; Package: SOIC-8
footprint 8-SOIC (pitch 1.27 mm)
part A pins: 1 OUT (out), 2 IN- (in), 3 IN+ (in), 4 V- (power), 8 V+ (power)
part B pins: 5 IN+ (in), 6 IN- (in), 7 OUT (out)

## OpAmpIsolation
designator DA?  PartNumber: AMC1200SDUBR
IC, Fully-Differential Isolation Amplifier; Manufacturer: Texas Instruments; Package: SOP-8
footprint 8-SOP (pitch 2.54 mm)
pins: 1 V- (power), 2 IN+ (in), 3 IN- (in), 4 V- (power), 5 V- (power), 6 OUT, 7 OUT, 8 V- (power)

## OpAmpQuad
designator DA?  PartNumber: LM239DT
IC, Comparator Quad; Manufacturer: ST Microelectronics; Package: SOIC-14
footprint 14-SOIC
part A pins: 2 OUT (out), 3 V+ (power), 4 IN- (in), 5 IN+ (in), 12 V- (power)
part B pins: 1 OUT (out), 6 IN- (in), 7 IN+ (in)
part C pins: 8 IN- (in), 9 IN+ (in), 14 OUT (out)
part D pins: 10 IN- (in), 11 IN+ (in), 13 OUT (out)

## OpAmpSingle
designator DA?  PartNumber: LMV321ILT
IC, Op Amp Single; Manufacturer: ST Microelectronics; Package: SOT-25
footprint SOT-25
pins: 1 IN+ (in), 2 V- (power), 3 IN- (in), 4 OUT (out), 5 V+ (power)

## Opto TRIAC
designator DD?  PartNumber: MOC3063
Opto-Triac; Manufacturer: Lite-On Inc.; Package: DIP-6
footprint 6-DIP (pitch 2.54 mm)
pins: 1 A, 2 K, 4 A/K, 6 A/K

## Optoisolator 4pin
designator DD?  PartNumber: LTV-817S-TA1-C
Phototransistor Optocoupler 4-Pin; Manufacturer: Lite-On Technology; Package: 817 SMD
footprint OPTO: LTV-817S
footprint OPTO: KTIR0911S
footprint PCB: DL DropСounter OptoStand
footprint OPTO: SOIC-4-175mil
pins: 1 A "Anode", 2 C "Cathode", 3 E "Emitter", 4 C "Collector"

## Osc
designator Y?  value 12MHz
Quartz resonator, 12MHz; Manufacturer: Abracon Corp.; PartNumber: ABM3B-12.000MHZ-B2-T; Cap: 18pF; Package: 5032
footprint OSC: 5032
footprint OSC: 3225
footprint OSC: 2012
footprint OSC: MC-306; pin to pad 3>4
pins: 1 OSC1, 3 OSC2

## Osc GND
designator Y?  value 32MHz  PartNumber: 12.88638
Quartz resonator, 32MHz; Manufacturer: Geyer Electronic; Cap: 12pF; Package: 5032
footprint OSC: 3225
pins: 1 OSC1, 2 Body, 3 OSC2, 4 Body

## PCB
designator PCB?  (value not drawn)
PCB, fastening element; Manufacturer: AR; PartNumber: DL MS SoilMoisturePlate; Package: PCB
footprint PCB: DL_MS_PhotoGate_Stop
footprint PCB: DL_RJS_TransmitterPlate_V1.0
footprint PCB: DL_RJS_SpliterPlugBoard
footprint PCB: DL_RJS_Transmitter_Plug
footprint PCB: Trenicop_ReedRF_Plate_V1.0
footprint PCB: DL_Recorder_LEDsBoard_V1.0
footprint PCB: Trenicop_ReedRF_Plate_V1.1
footprint PCB: DL_RJS_TransmitterPlate_V1.1
footprint PCB: DL_RJS_Ethanol_Thermistor_board_V1.0
footprint PCB: DL_O2-A2_0.8SPACER_V1.0

## PCB DL MS SoilMoisturePlate
designator PCB?  (value not drawn)
PCB, fastening element; Manufacturer: AR; PartNumber: DL MS SoilMoisturePlate; Package: PCB
footprint PCB: DL MS SoilMoisturePlate V1.0

## Photo NPN
designator VT?  PartNumber: SFH309FA
NPN Phototransistor; Manufacturer: OSRAM; Package: DIP 3mm
footprint LED: 3MM BLACK H9.7 X8.6
footprint LED: 3MM BLACK H9.7 X10.6
footprint LED: 3MM TRANSPARENT PCB END
pins: 1 C, 2 E

## Photodiode
designator VD?  PartNumber: SFH203
Photodiode; Manufacturer: Osram; Package: DIP 5 mm, transparent
footprint LED: 5mm LED transparent
footprint LED: 3MM BLACK H9.7 X8.6
footprint LED: 3MM BLACK H9.7 X10.6
footprint LED: 3MM TRANSPARENT PCB END
pins: 1 C, 2 A

## Photodiode PCB
designator DA?  PartNumber: Photodiode PCB
PCB = photodiode + OA; Manufacturer: *; Package: Custom
footprint SENS: PCB PHOTODIODE
pins: 1 Vout, 2 VDD, 3 GND, 4 GND

## PLH PCB
designator PCB?  PartNumber: PLH-5K+PCB
Custom PCB with PLH-5K; Manufacturer: AR; Package: Custom PCB
footprint SENS: PCB PLH LONG
footprint SENS: PCB PLH SHORT

## PNP
designator VT?  PartNumber: BC856
PNP Bipolar Transistor; Manufacturer: NXP; Package: SOT-23
footprint SOT-23
pins: 1 B, 2 E, 3 C

## PNP_Double
designator VT?  PartNumber: BC807DC
Double PNP Bipolar Transistor; Manufacturer: NXP; Package: SOT-26
footprint SOT-26
part A pins: 1 E, 2 B, 6 C
part B pins: 3 C, 4 E, 5 B

## PV096000AR13A
designator MOD?  Package: PV096000AR13A  (hidden comment: *)
Manufacturer: Kingtech Group Co., Ltd.; PartNumber: PV096000AR13A
footprint MOD: PV096000AR13A
pins: 1 GND, 2 LEDA, 3 LEDK, 4 VCC, 5 NC, 6 GND, 7 CS, 8 RES, 9 RS, 10 SCL, 11 SDA, 12 TP1, 13 TP0

## Radiator
designator MECH?  PartNumber: 34x12x35 1 hole
Aluminum radiator 34x12x35; Manufacturer: China; Package: 34x12x35
footprint MECH: RADIATOR 34x12x35 1 HOLE

## REF3030
designator DA?  PartNumber: REF3030AIDBZR
IC, 50-ppm/°C Max, 50-μA, CMOS Voltage Reference; Manufacturer: Texas Instruments; Package: SOT-23
footprint SOT-23
pins: 1 Vin, 2 Vout, 3 GND

## Res
designator R?  value 10k
Res; PartNumber: R0402_10kOhm_1%; Tolerance: 1%; Manufacturer: *; Package: 0402
footprint RES: 0402
footprint RES: 2512
footprint RES: 2512 thermo
footprint RES: 1206
footprint RES: 0603
footprint RES: 2010
footprint RES: DIP 0.5W P12.7 (Резистор DIP 0.5 Вт (4 полосы))
footprint RES: 0805
footprint RES: KNP-2 H7.5 DELTA1.23
footprint RES: 0201
pins: 1, 2

## Res Thermal
designator RT?  value 10k
Thermistor; PartNumber: NTC-MF52AT; Tolerance: 5%; Manufacturer: *; Package: DIP
footprint RES: MF52 (Термистор)
footprint RES: NTC_D11.5_S6
footprint IND: 0603
footprint IND: 0805
pins: 1, 2
text: t°

## Res Varistor
designator R?  PartNumber: FNR-07K471  (hidden comment: *)
Varistor; Manufacturer: Fenghua; Package: VAR-07
footprint VAR: VAR-07
pins: 1, 2

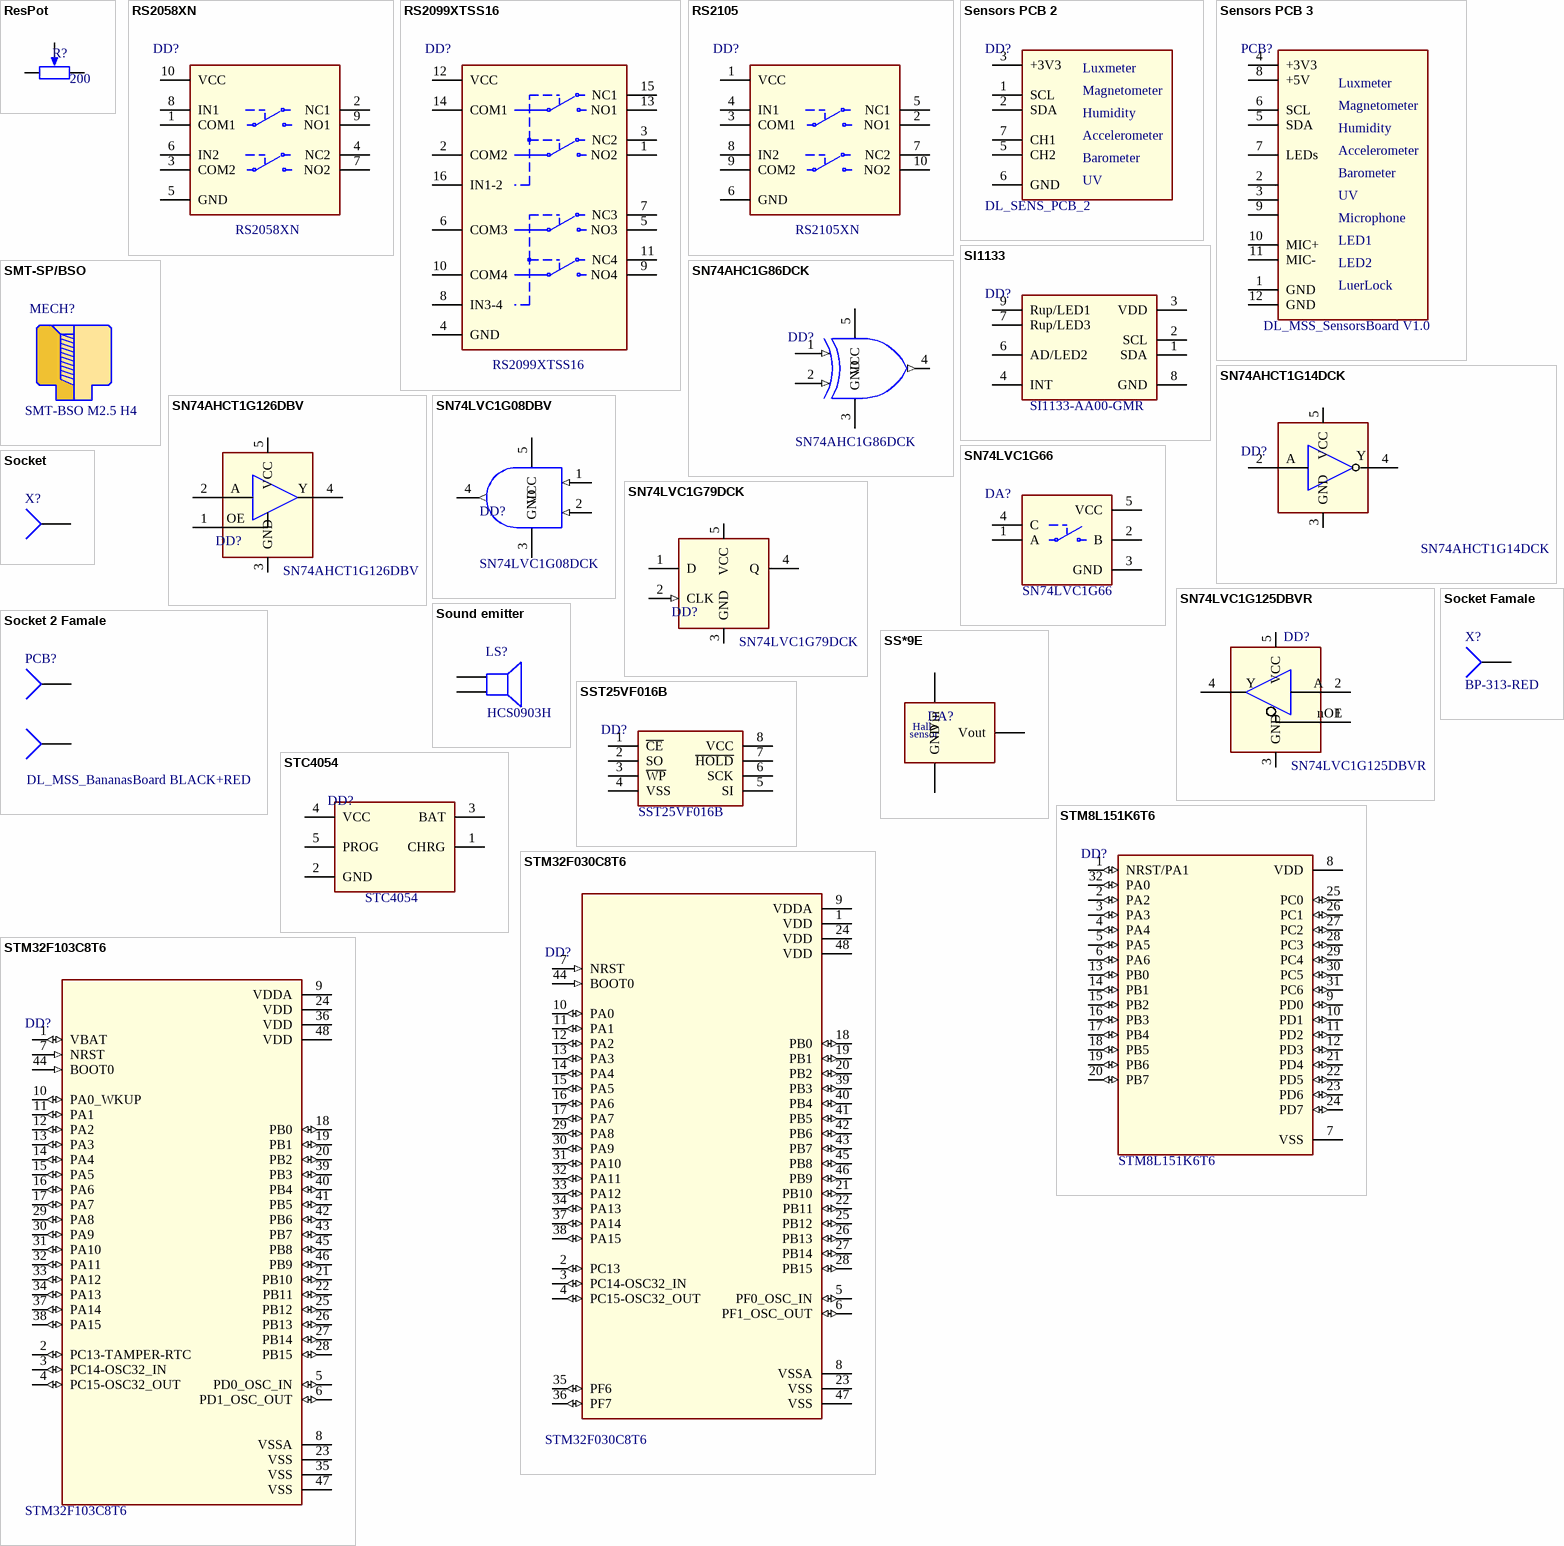
[diagram p4: symbols ResPot to STM32F103C8T6]

## ResPot
designator R?  value 200
Variable resistor; PartNumber: 3362P-1-201LF; Manufacturer: Bourns; Tolerance: 10%; Package: 3362P
footprint RES: 3362P
footprint RES: 3296W
footprint RES: TC33X-2
pins: 1, 2, 3 TAP

## RS2058XN
designator DD?  PartNumber: RS2058XN
IC, Low Voltage Dual SPDT Analog Switch; Manufacturer: Jiangsu RUNIC Tech; Package: MSOP-10
footprint 10-MSOP
pins: 1 COM1, 2 NC1, 3 COM2, 4 NC2, 5 GND, 6 IN2, 7 NO2, 8 IN1, 9 NO1, 10 VCC

## RS2099XTSS16
designator DD?  PartNumber: RS2099XTSS16
IC, Quad SPDT Analog Switch 4-Channel 2:1 / Multiplexer; Manufacturer: Jiangsu Runic Technology Co., Ltd; Package: TSSOP-16
footprint 16-TSSOP
pins: 1 NO2, 2 COM2, 3 NC2, 4 GND, 5 NO3, 6 COM3, 7 NC3, 8 IN3-4, 9 NO4, 10 COM4, 11 NC4, 12 VCC, 13 NO1, 14 COM1, 15 NC1, 16 IN1-2

## RS2105
designator DD?  PartNumber: RS2105XN
IC, Low Voltage Dual SPDT Analog Switch; Manufacturer: Jiangsu RUNIC Tech; Package: MSOP-10
footprint 10-MSOP
pins: 1 VCC, 2 NO1, 3 COM1, 4 IN1, 5 NC1, 6 GND, 7 NC2, 8 IN2, 9 COM2, 10 NO2

## Sensors PCB 2
designator DD?  PartNumber: DL_SENS_PCB_2
PCB, MEMS sensors; Manufacturer: AR; Package: PCB
footprint SENS: PCB MEMS 2; pin to pad 3>3+4 6>6+8
pins: 1 SCL, 2 SDA, 3 +3V3, 5 CH2, 6 GND, 7 CH1
text: Luxmeter; Magnetometer; Humidity; Accelerometer; Barometer; UV

## Sensors PCB 3
designator PCB?  PartNumber: DL_MSS_SensorsBoard V1.0
PCB, MEMS sensors+LEDs+Mic+LuerLock; Manufacturer: AR; Package: PCB
footprint PCB: DL_MSS_SensorsBoard V1.0
pins: 1 GND, 2, 3, 4 +3V3, 5 SDA, 6 SCL, 7 LEDs, 8 +5V, 9, 10 MIC+, 11 MIC-, 12 GND
text: Luxmeter; Magnetometer; Humidity; Accelerometer; Barometer; UV; Microphone; LED1; LED2; LuerLock

## SI1133
designator DD?  PartNumber: SI1133-AA00-GMR
IC, Sensor of ambient light and UVI; Manufacturer: Silicon Labs; Package: DFN-10
footprint 10-DFN (2X2)
pins: 1 SDA, 2 SCL, 3 VDD, 4 INT, 6 AD/LED2, 7 Rup/LED3, 8 GND, 9 Rup/LED1

## SMT-SP/BSO
designator MECH?  PartNumber: SMT-BSO M2.5 H4  (hidden comment: *)
SMD Nut Soldered Circuit Board Surface Mount Stud; Manufacturer: China; Package: SMT-BSO M2.5 H4
footprint MECH: SMT-BSO M2.5 H4

## SN74AHC1G86DCK
designator DD?  PartNumber: SN74AHC1G86DCK
IC, Exclusive-OR Gate; Manufacturer: Texas Instruments; Package: SOT-353
footprint SOT-25
footprint SOT-353
pins: 1 A (in), 2 B (in), 3 GND, 4 Y (out), 5 VCC

## SN74AHCT1G14DCK
designator DD?  PartNumber: SN74AHCT1G14DCK
IC, Single Schmitt-trigger Inverter Gate; Manufacturer: Texas Instruments; Package: SOT-353
footprint SOT-353
pins: 2 A, 3 GND, 4 Y, 5 VCC

## SN74AHCT1G126DBV
designator DD?  PartNumber: SN74AHCT1G126DBV
IC, Logic buffer; Manufacturer: Texas Instruments; Package: SOT-25
footprint SOT-25
footprint SOT-353
pins: 1 ~{OE}, 2 A, 3 GND, 4 Y, 5 VCC
text: OE

## SN74LVC1G08DBV
designator DD?  PartNumber: SN74LVC1G08DCK
IC, Gate AND; Manufacturer: Texas Instruments; Package: SOT-25
footprint SOT-25
footprint SOT-353
pins: 1 A (in), 2 B (in), 3 GND, 4 Y (out), 5 VCC

## SN74LVC1G66
designator DA?  PartNumber: SN74LVC1G66
IC, Analog Switch; Manufacturer: Texas Instruments; Package: SOT-353
footprint SOT-353
pins: 1 A "Bidirectional signal to be switched", 2 B "Bidirectional signal to be switched", 3 GND (power) "Ground pin", 4 C "Controls the switch (L = OFF, H = ON)", 5 VCC (power) "Power pin"

## SN74LVC1G79DCK
designator DD?  PartNumber: SN74LVC1G79DCK
IC, Logic buffer; Manufacturer: Texas Instruments; Package: SOT-323
footprint SOT-25
footprint SOT-353
pins: 1 D, 2 CLK (in), 3 GND, 4 Q, 5 VCC

## SN74LVC1G125DBVR
designator DD?  PartNumber: SN74LVC1G125DBVR
IC, Logic buffer; Manufacturer: Diodes; Package: SOT-23
footprint SOT-25
footprint SOT-353
pins: 1 ~{OE}, 2 A, 3 GND, 4 Y, 5 VCC
text: nOE

## Socket
designator X?  (no BOM)
Socket
footprint CON: HOLE 1mm
footprint CON: PAD 1.5Х3
footprint CON: PAD 1.5Х2
footprint CON: PAD 1.5Х5.5
footprint CON: HOLE 1.3
footprint CON: HOLE 0.8
footprint CON: HOLE 0.6
footprint CON: HOLE 1.5
footprint CON: PAD 1.5Х4+2 HOLE 1.0
footprint CON: HOLE 1mm TYPE2
footprint CON: PAD 1.2Х1.5
footprint CON: PAD 2.5X0.6+HALF-HOLE
footprint CON: PAD FOR ENCODER
footprint CON: HOLE 2.5
footprint FUSE: FC-002Sx1 R
footprint CON: PAD 1.3Х2
footprint CON: PAD C D4.15d3.15H1.6
footprint CON: COLLET_СLAMP_d1.5D2.5H5.6_Z0.8
pins: 1

## Socket 2 Famale
designator PCB?  PartNumber: DL_MSS_BananasBoard BLACK+RED
Socket, bananas black and red + PCB; Manufacturer: AR; Package: PCB
footprint CON: BANS PCB 313 BLACK-NP
footprint CON: BANS PCB 313 RED-BLACK
footprint CON: BANS PCB 313 NP-BLACK
footprint CON: BANS PCB 313 BLACK-RED
pins: 1, 2

## Socket Famale
designator X?  PartNumber: BP-313-RED
Socket, banana red; Manufacturer: DRAGON; Package: banana 313
footprint CON: BAN 313 RED
footprint CON: BAN 313 BLACK
footprint CON: BAN PCB 313 RED
footprint CON: BAN PCB 313 BLACK
footprint CON: BAN 313 BLUE
footprint CON: BAN 313 GREEN
pins: 1

## Sound emitter
designator LS?  PartNumber: HCS0903H
Buzzer, 3V, 2.73kHz; Manufacturer: Jl World; Package: HCS09
footprint HC09&HCS09
pins: 1, 2

## SS*9E
designator DA?
IC, Linear Hall-effect Sensor; PartNumber: SS39E; Manufacturer: Honeywell International; Package: TO-92 FLAT
footprint TO-92 FLAT
pins: 1 Vout, 2 GND, 3 Vin
text: Hall; sensor

## SST25VF016B
designator DD?  PartNumber: SST25VF016B
IC, FLASH 16Mbit; Manufacturer: Microchip Technology; Package: SOIC-8
footprint 8-SOIC-208
pins: 1 ~{CE}, 2 SO, 3 ~{WP}, 4 VSS, 5 SI, 6 SCK, 7 ~{HOLD}, 8 VCC

## STC4054
designator DD?  PartNumber: STC4054
IC, Bat Charger Linear; Manufacturer: STMicroelecronics; Package: *
footprint SOT-25
pins: 1 CHRG, 2 GND, 3 BAT, 4 VCC, 5 PROG

## STM8L151K6T6
designator DD?  PartNumber: STM8L151K6T6
IC, Microcontroller; Manufacturer: ST Microelectronics; Package: LQFP-32
footprint 32-LQFP
pins: 1 NRST/PA1 (io), 2 PA2 (io), 3 PA3 (io), 4 PA4 (io), 5 PA5 (io), 6 PA6 (io), 7 VSS (power), 8 VDD (power), 9 PD0 (io), 10 PD1 (io), 11 PD2 (io), 12 PD3 (io), 13 PB0 (io), 14 PB1 (io), 15 PB2 (io), 16 PB3 (io), 17 PB4 (io), 18 PB5 (io), 19 PB6 (io), 20 PB7 (io), 21 PD4 (io), 22 PD5 (io), 23 PD6 (io), 24 PD7 (io), 25 PC0 (io), 26 PC1 (io), 27 PC2 (io), 28 PC3 (io), 29 PC4 (io), 30 PC5 (io), 31 PC6 (io), 32 PA0 (io)

## STM32F030C8T6
designator DD?  PartNumber: STM32F030C8T6
IC, Microcontroller; Manufacturer: ST Microelectronics; Package: LQFP-48
footprint 48-LQFP (QFP, 48-Leads, Body 7x7mm, Pitch 0.5mm, IPC Medium Density)
pins: 1 VDD (power), 2 PC13 (io), 3 PC14-OSC32_IN (io), 4 PC15-OSC32_OUT (io), 5 PF0_OSC_IN (io), 6 PF1_OSC_OUT (io), 7 NRST (in), 8 VSSA (power), 9 VDDA (power), 10 PA0 (io), 11 PA1 (io), 12 PA2 (io), 13 PA3 (io), 14 PA4 (io), 15 PA5 (io), 16 PA6 (io), 17 PA7 (io), 18 PB0 (io), 19 PB1 (io), 20 PB2 (io), 21 PB10 (io), 22 PB11 (io), 23 VSS (power), 24 VDD (power), 25 PB12 (io), 26 PB13 (io), 27 PB14 (io), 28 PB15 (io), 29 PA8 (io), 30 PA9 (io), 31 PA10 (io), 32 PA11 (io), 33 PA12 (io), 34 PA13 (io), 35 PF6 (io), 36 PF7 (io), 37 PA14 (io), 38 PA15 (io), 39 PB3 (io), 40 PB4 (io), 41 PB5 (io), 42 PB6 (io), 43 PB7 (io), 44 BOOT0 (in), 45 PB8 (io), 46 PB9 (io), 47 VSS (power), 48 VDD (power)

## STM32F103C8T6
designator DD?  PartNumber: STM32F103C8T6
IC, Microcontroller; Manufacturer: ST Microelectronics; Package: LQFP-48
footprint 48-LQFP (QFP, 48-Leads, Body 7x7mm, Pitch 0.5mm, IPC Medium Density)
pins: 1 VBAT (io), 2 PC13-TAMPER-RTC (io), 3 PC14-OSC32_IN (io), 4 PC15-OSC32_OUT (io), 5 PD0_OSC_IN (io), 6 PD1_OSC_OUT (io), 7 NRST (in), 8 VSSA (power), 9 VDDA (power), 10 PA0_WKUP (io), 11 PA1 (io), 12 PA2 (io), 13 PA3 (io), 14 PA4 (io), 15 PA5 (io), 16 PA6 (io), 17 PA7 (io), 18 PB0 (io), 19 PB1 (io), 20 PB2 (io), 21 PB10 (io), 22 PB11 (io), 23 VSS (power), 24 VDD (power), 25 PB12 (io), 26 PB13 (io), 27 PB14 (io), 28 PB15 (io), 29 PA8 (io), 30 PA9 (io), 31 PA10 (io), 32 PA11 (io), 33 PA12 (io), 34 PA13 (io), 35 VSS (power), 36 VDD (power), 37 PA14 (io), 38 PA15 (io), 39 PB3 (io), 40 PB4 (io), 41 PB5 (io), 42 PB6 (io), 43 PB7 (io), 44 BOOT0 (in), 45 PB8 (io), 46 PB9 (io), 47 VSS (power), 48 VDD (power)

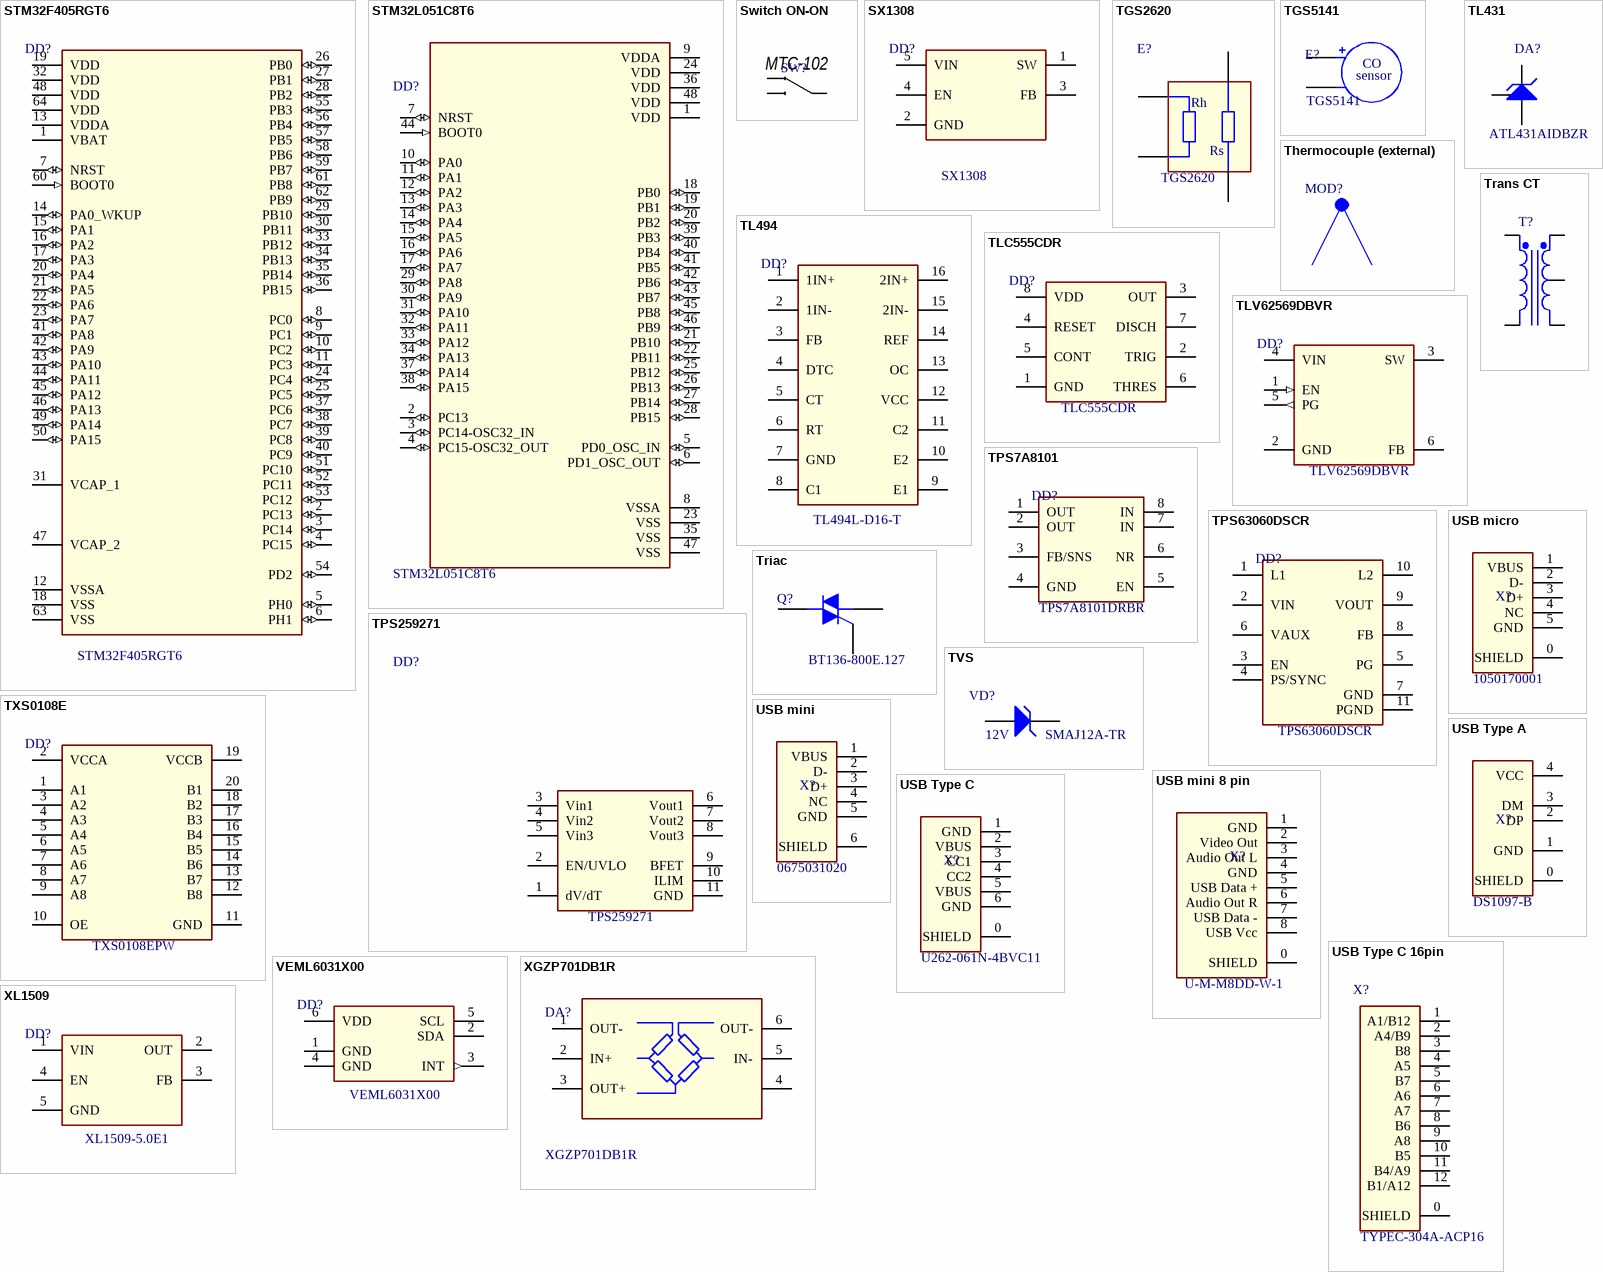
[diagram p5: symbols STM32F405RGT6 to XL1509]

## STM32F405RGT6
designator DD?  PartNumber: STM32F405RGT6
IC, Microcontroller; Manufacturer: ST Microelectronics; Package: LQFP-64
footprint 64-LQFP
pins: 1 VBAT (power), 2 PC13 (io), 3 PC14 (io), 4 PC15 (io), 5 PH0 (io), 6 PH1 (io), 7 NRST (io), 8 PC0 (io), 9 PC1 (io), 10 PC2 (io), 11 PC3 (io), 12 VSSA (power), 13 VDDA (power), 14 PA0_WKUP (io), 15 PA1 (io), 16 PA2 (io), 17 PA3 (io), 18 VSS (power), 19 VDD  (power), 20 PA4 (io), 21 PA5 (io), 22 PA6 (io), 23 PA7 (io), 24 PC4 (io), 25 PC5 (io), 26 РВ0 (io), 27 PB1 (io), 28 PB2 (io), 29 PB10 (io), 30 PB11 (io), 31 VCAP_1, 32 VDD (power), 33 PB12 (io), 34 PB13 (io), 35 PB14 (io), 36 PB15 (io), 37 PC6 (io), 38 PC7 (io), 39 PC8 (io), 40 PC9 (io), 41 PA8 (io), 42 PA9 (io), 43 PA10 (io), 44 PA11 (io), 45 PA12 (io), 46 PA13 (io), 47 VCAP_2, 48 VDD (power), 49 PA14 (io), 50 PA15 (io), 51 PC10 (io), 52 PC11 (io), 53 PC12 (io), 54 PD2 (io), 55 PB3 (io), 56 PB4 (io), 57 PB5 (io), 58 PB6 (io), 59 PB7 (io), 60 BOOT0 (in), 61 PB8 (io), 62 PB9 (io), 63 VSS (power), 64 VDD (power)

## STM32L051C8T6
designator DD?  PartNumber: STM32L051C8T6
IC, Microcontroller; Manufacturer: ST Microelectronics; Package: LQFP-48
footprint 48-LQFP (QFP, 48-Leads, Body 7x7mm, Pitch 0.5mm, IPC Medium Density)
pins: 1 VDD (power), 2 PC13 (io), 3 PC14-OSC32_IN (io), 4 PC15-OSC32_OUT (io), 5 PD0_OSC_IN (io), 6 PD1_OSC_OUT (io), 7 NRST (io), 8 VSSA (power), 9 VDDA (power), 10 PA0 (io), 11 PA1 (io), 12 PA2 (io), 13 PA3 (io), 14 PA4 (io), 15 PA5 (io), 16 PA6 (io), 17 PA7 (io), 18 PB0 (io), 19 PB1 (io), 20 PB2 (io), 21 PB10 (io), 22 PB11 (io), 23 VSS (power), 24 VDD (power), 25 PB12 (io), 26 PB13 (io), 27 PB14 (io), 28 PB15 (io), 29 PA8 (io), 30 PA9 (io), 31 PA10 (io), 32 PA11 (io), 33 PA12 (io), 34 PA13 (io), 35 VSS (power), 36 VDD (power), 37 PA14 (io), 38 PA15 (io), 39 PB3 (io), 40 PB4 (io), 41 PB5 (io), 42 PB6 (io), 43 PB7 (io), 44 BOOT0 (in), 45 PB8 (io), 46 PB9 (io), 47 VSS (power), 48 VDD (power)

## Switch ON-ON
designator SW?  PartNumber: MTC-102
Switch, ON-ON; Manufacturer: Jietong Switch; Package: MTC-102-A3
footprint BUT: MTS-102
footprint BUT: OS102011MA1QN1
footprint BUT: Limit switch mini
pins: 1 PIN1, 2 PIN0, 3 PIN1

## SX1308
designator DD?  PartNumber: SX1308
IC,  Step Up Converter (MT3608); Manufacturer: SX(Shenzhen Suosemi Tech); Package: SOT-26
footprint SOT-26
pins: 1 SW, 2 GND (power), 3 FB, 4 EN, 5 VIN (power)

## TGS2620
designator E?  PartNumber: TGS2620
Sensor for the detection of Solvent Vapors; Manufacturer: Figaro; Package: TGS2620
footprint SENS: TGS2620
footprint SENS: TGS2620 2LongPins
pins: 1, 2, 3, 4
text: Rh; Rs

## TGS5141
designator E?  PartNumber: TGS5141
СО Sensor; Manufacturer: Figaro; Package: TGS5141
footprint SENS: TGS5141
pins: 1 M, 2 P
text: CO; sensor

## Thermocouple (external)
designator MOD?  (value not drawn)
Thermocouple 3x290 K-type; Manufacturer: China; Package: Thermocouple 3x290; PartNumber: Thermocouple 3x290 K-type
footprint MOD: Thermocouple 3x290

## TL431
designator DA?  PartNumber: ATL431AIDBZR
IC, Precision Programmable Reference; Manufacturer: Texas Instruments; Package: SOT23
footprint SOT-23
pins: 1 C, 2 REF, 3 A

## TL494
designator DD?  PartNumber: TL494L-D16-T
IC, Pulse-Width-Modulation Control Circuits; Manufacturer: Unisonic; Package: DIP-16
footprint 16-DIP+SOCKET
pins: 1 1IN+, 2 1IN-, 3 FB, 4 DTC, 5 CT, 6 RT, 7 GND, 8 C1, 9 E1, 10 E2, 11 C2, 12 VCC, 13 OC, 14 REF, 15 2IN-, 16 2IN+

## TLC555CDR
designator DD?  PartNumber: TLC555CDR
IC, Timer; Manufacturer: Texas Instruments; Package: SOIC-8
footprint 8-SOIC
pins: 1 GND (power), 2 TRIG, 3 OUT, 4 RESET, 5 CONT, 6 THRES, 7 DISCH, 8 VDD (power)

## TLV62569DBVR
designator DD?  PartNumber: TLV62569DBVR
IC, High Efficiency Synchronous Buck Converter; Manufacturer: Texas Instruments; Package: SOT-26
footprint SOT-26
pins: 1 EN (in), 2 GND (power), 3 SW, 4 VIN (power), 5 PG (out), 6 FB